# Altium schematic symbol library FPGA_Xilinx_Virtex6.SchLib: 28 symbols (part 1 of 15)
Pins are listed as number, name and electrical type; pins without a type are passive.

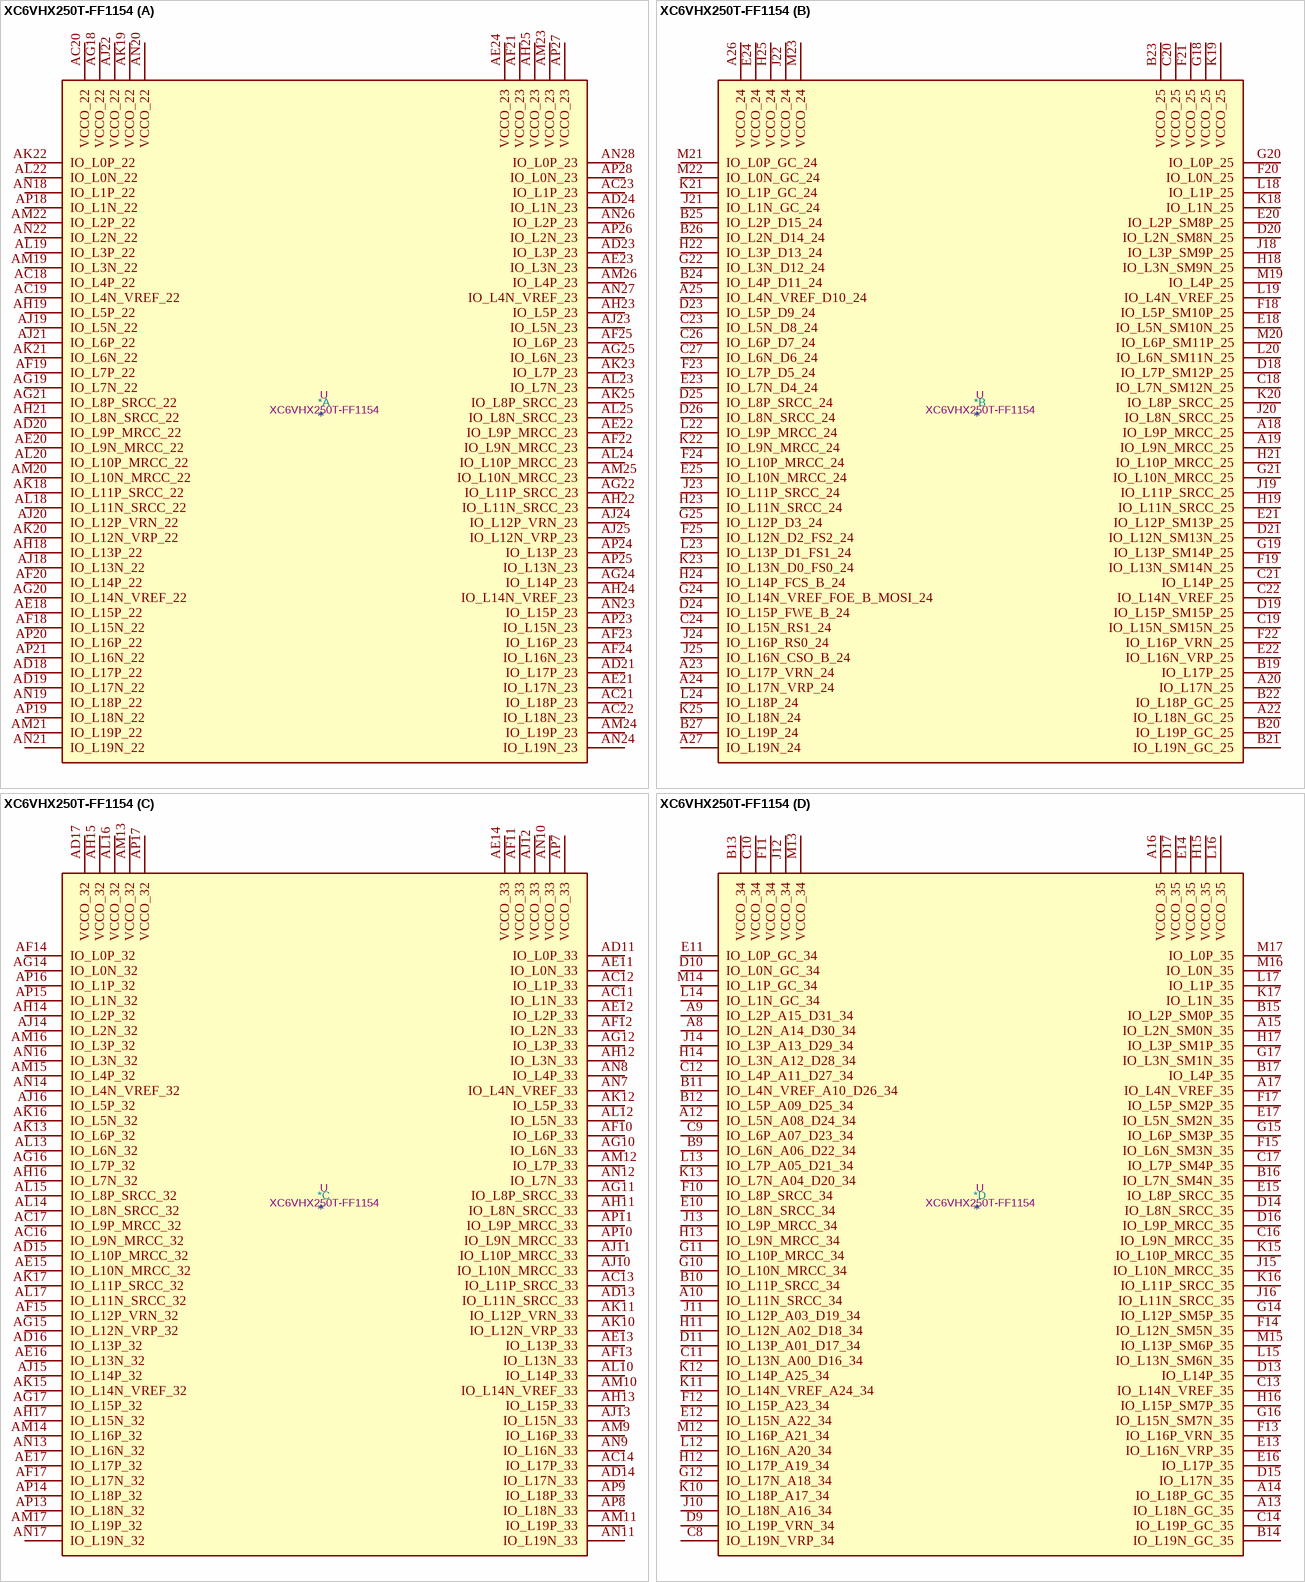
[diagram p0: symbol XC6VHX250T-FF1154]

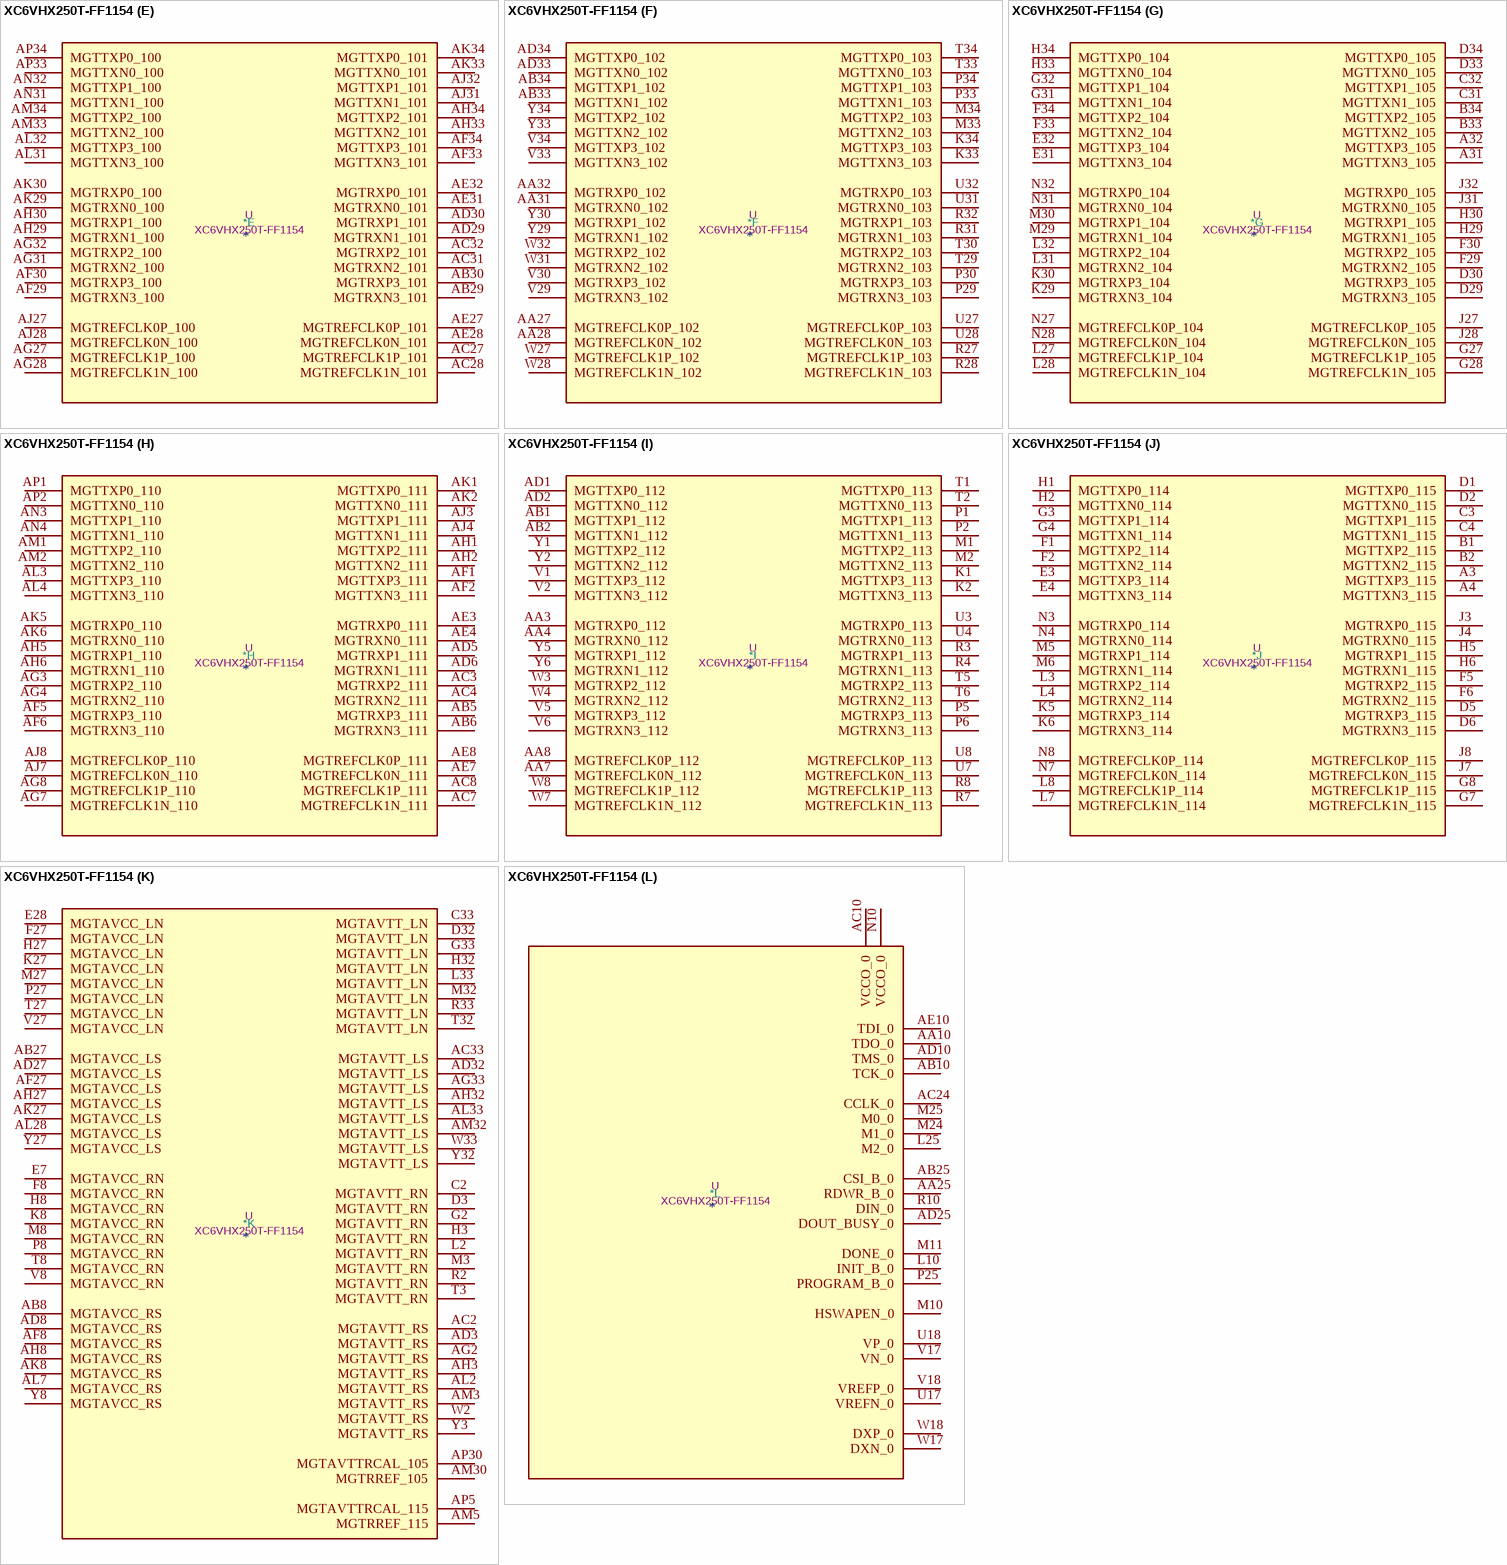
[diagram p1: symbol XC6VHX250T-FF1154]

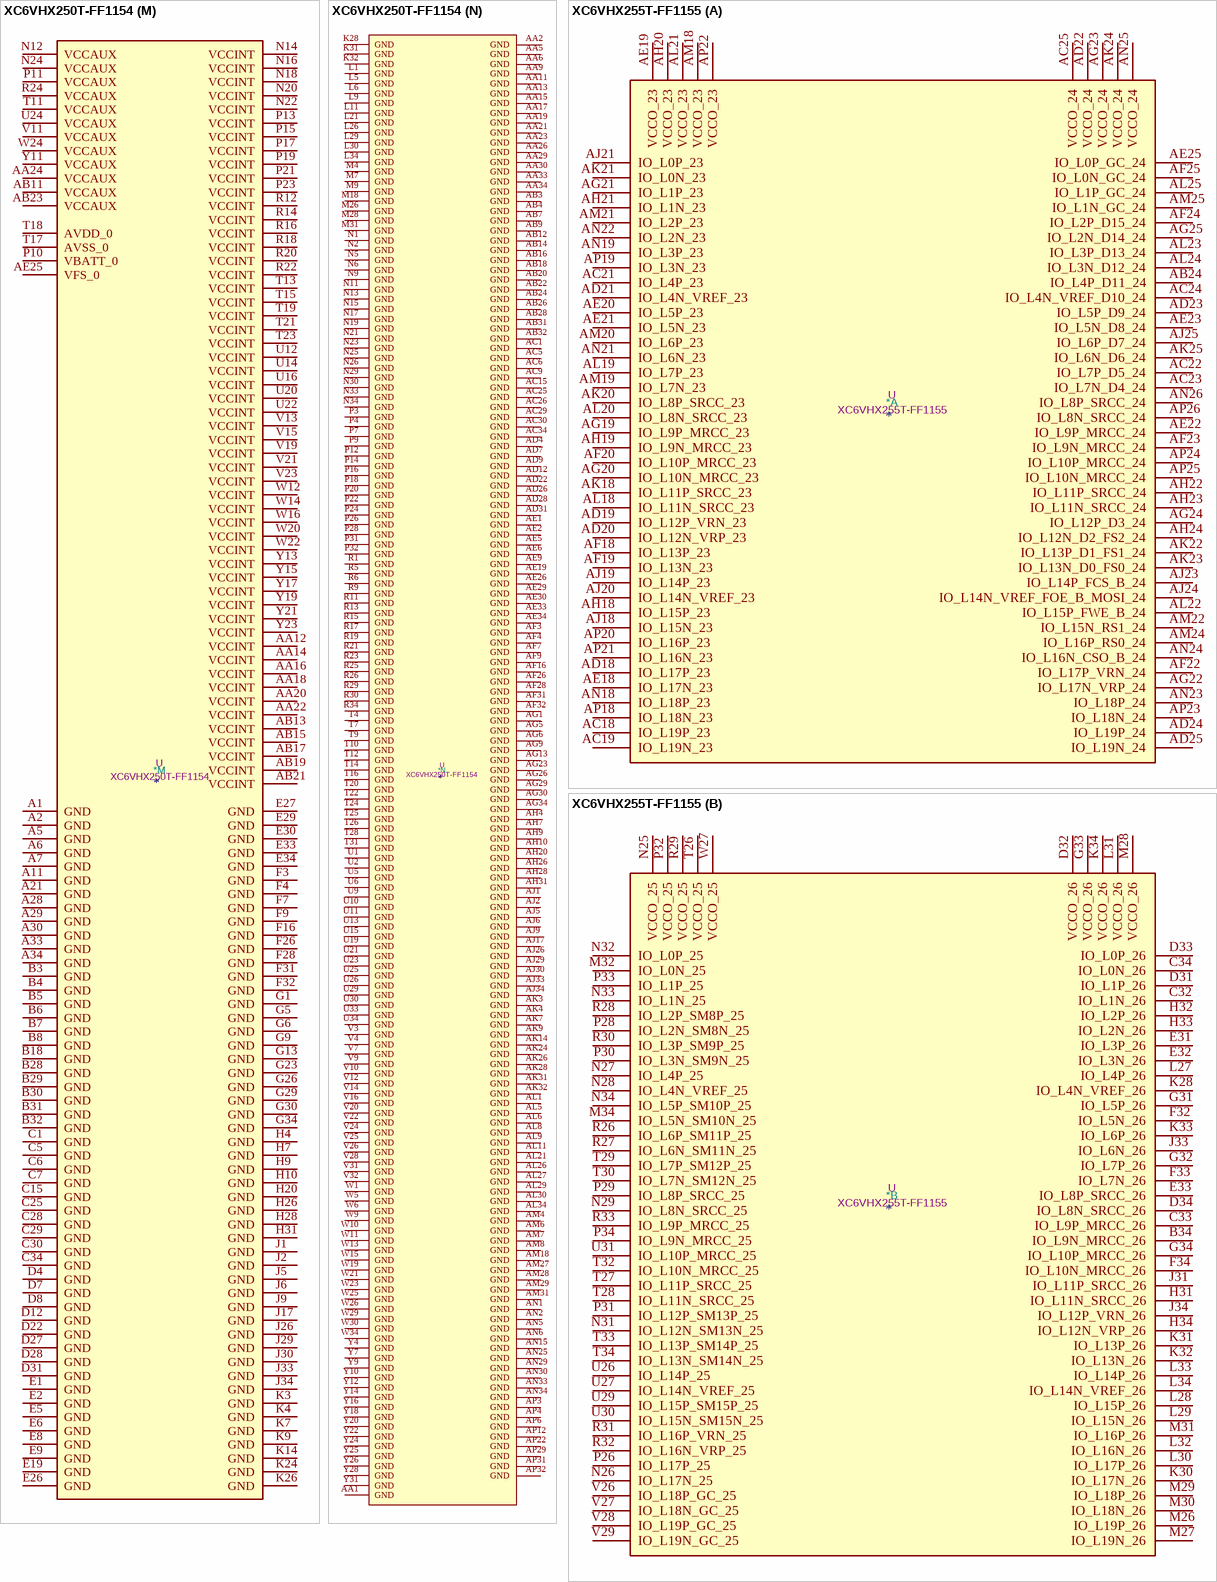
[diagram p2: symbols XC6VHX250T-FF1154 to XC6VHX255T-FF1155]

## XC6VHX250T-FF1154
designator *  value XC6VHX250T-FF1154  Reference: U
Virtex 6 HXT 250 XC6VHX250T-FF1154; ki_keywords: FPGA; Description_: Virtex 6 HXT 250 XC6VHX250T-FF1154
part A pins: AC18 IO_L4P_22, AC19 IO_L4N_VREF_22, AC20 VCCO_22, AC21 IO_L18P_23, AC22 IO_L18N_23, AC23 IO_L1P_23, AD18 IO_L17P_22, AD19 IO_L17N_22, AD20 IO_L9P_MRCC_22, AD21 IO_L17P_23, AD23 IO_L3P_23, AD24 IO_L1N_23, AE18 IO_L15P_22, AE20 IO_L9N_MRCC_22, AE21 IO_L17N_23, AE22 IO_L9P_MRCC_23, AE23 IO_L3N_23, AE24 VCCO_23, AF18 IO_L15N_22, AF19 IO_L7P_22, AF20 IO_L14P_22, AF21 VCCO_23, AF22 IO_L9N_MRCC_23, AF23 IO_L16P_23, AF24 IO_L16N_23, AF25 IO_L6P_23, AG18 VCCO_22, AG19 IO_L7N_22, AG20 IO_L14N_VREF_22, AG21 IO_L8P_SRCC_22, AG22 IO_L11P_SRCC_23, AG24 IO_L14P_23, AG25 IO_L6N_23, AH18 IO_L13P_22, AH19 IO_L5P_22, AH21 IO_L8N_SRCC_22, AH22 IO_L11N_SRCC_23, AH23 IO_L5P_23, AH24 IO_L14N_VREF_23, AH25 VCCO_23, AJ18 IO_L13N_22, AJ19 IO_L5N_22, AJ20 IO_L12P_VRN_22, AJ21 IO_L6P_22, AJ22 VCCO_22, AJ23 IO_L5N_23, AJ24 IO_L12P_VRN_23, AJ25 IO_L12N_VRP_23, AK18 IO_L11P_SRCC_22, AK19 VCCO_22, AK20 IO_L12N_VRP_22, AK21 IO_L6N_22, AK22 IO_L0P_22, AK23 IO_L7P_23, AK25 IO_L8P_SRCC_23, AL18 IO_L11N_SRCC_22, AL19 IO_L3P_22, AL20 IO_L10P_MRCC_22, AL22 IO_L0N_22, AL23 IO_L7N_23, AL24 IO_L10P_MRCC_23, AL25 IO_L8N_SRCC_23, AM19 IO_L3N_22, AM20 IO_L10N_MRCC_22, AM21 IO_L19P_22, AM22 IO_L2P_22, AM23 VCCO_23, AM24 IO_L19P_23, AM25 IO_L10N_MRCC_23, AM26 IO_L4P_23, AN18 IO_L1P_22, AN19 IO_L18P_22, AN20 VCCO_22, AN21 IO_L19N_22, AN22 IO_L2N_22, AN23 IO_L15P_23, AN24 IO_L19N_23, AN26 IO_L2P_23, AN27 IO_L4N_VREF_23, AN28 IO_L0P_23, AP18 IO_L1N_22, AP19 IO_L18N_22, AP20 IO_L16P_22, AP21 IO_L16N_22, AP23 IO_L15N_23, AP24 IO_L13P_23, AP25 IO_L13N_23, AP26 IO_L2N_23, AP27 VCCO_23, AP28 IO_L0N_23
part B pins: A18 IO_L9P_MRCC_25, A19 IO_L9N_MRCC_25, A20 IO_L17N_25, A22 IO_L18N_GC_25, A23 IO_L17P_VRN_24, A24 IO_L17N_VRP_24, A25 IO_L4N_VREF_D10_24, A26 VCCO_24, A27 IO_L19N_24, B19 IO_L17P_25, B20 IO_L19P_GC_25, B21 IO_L19N_GC_25, B22 IO_L18P_GC_25, B23 VCCO_25, B24 IO_L4P_D11_24, B25 IO_L2P_D15_24, B26 IO_L2N_D14_24, B27 IO_L19P_24, C18 IO_L7N_SM12N_25, C19 IO_L15N_SM15N_25, C20 VCCO_25, C21 IO_L14P_25, C22 IO_L14N_VREF_25, C23 IO_L5N_D8_24, C24 IO_L15N_RS1_24, C26 IO_L6P_D7_24, C27 IO_L6N_D6_24, D18 IO_L7P_SM12P_25, D19 IO_L15P_SM15P_25, D20 IO_L2N_SM8N_25, D21 IO_L12N_SM13N_25, D23 IO_L5P_D9_24, D24 IO_L15P_FWE_B_24, D25 IO_L8P_SRCC_24, D26 IO_L8N_SRCC_24, E18 IO_L5N_SM10N_25, E20 IO_L2P_SM8P_25, E21 IO_L12P_SM13P_25, E22 IO_L16N_VRP_25, E23 IO_L7N_D4_24, E24 VCCO_24, E25 IO_L10N_MRCC_24, F18 IO_L5P_SM10P_25, F19 IO_L13N_SM14N_25, F20 IO_L0N_25, F21 VCCO_25, F22 IO_L16P_VRN_25, F23 IO_L7P_D5_24, F24 IO_L10P_MRCC_24, F25 IO_L12N_D2_FS2_24, G18 VCCO_25, G19 IO_L13P_SM14P_25, G20 IO_L0P_25, G21 IO_L10N_MRCC_25, G22 IO_L3N_D12_24, G24 IO_L14N_VREF_FOE_B_MOSI_24, G25 IO_L12P_D3_24, H18 IO_L3N_SM9N_25, H19 IO_L11N_SRCC_25, H21 IO_L10P_MRCC_25, H22 IO_L3P_D13_24, H23 IO_L11N_SRCC_24, H24 IO_L14P_FCS_B_24, H25 VCCO_24, J18 IO_L3P_SM9P_25, J19 IO_L11P_SRCC_25, J20 IO_L8N_SRCC_25, J21 IO_L1N_GC_24, J22 VCCO_24, J23 IO_L11P_SRCC_24, J24 IO_L16P_RS0_24, J25 IO_L16N_CSO_B_24, K18 IO_L1N_25, K19 VCCO_25, K20 IO_L8P_SRCC_25, K21 IO_L1P_GC_24, K22 IO_L9N_MRCC_24, K23 IO_L13N_D0_FS0_24, K25 IO_L18N_24, L18 IO_L1P_25, L19 IO_L4N_VREF_25, L20 IO_L6N_SM11N_25, L22 IO_L9P_MRCC_24, L23 IO_L13P_D1_FS1_24, L24 IO_L18P_24, M19 IO_L4P_25, M20 IO_L6P_SM11P_25, M21 IO_L0P_GC_24, M22 IO_L0N_GC_24, M23 VCCO_24
part C pins: AC11 IO_L1N_33, AC12 IO_L1P_33, AC13 IO_L11P_SRCC_33, AC14 IO_L17P_33, AC16 IO_L9N_MRCC_32, AC17 IO_L9P_MRCC_32, AD11 IO_L0P_33, AD13 IO_L11N_SRCC_33, AD14 IO_L17N_33, AD15 IO_L10P_MRCC_32, AD16 IO_L13P_32, AD17 VCCO_32, AE11 IO_L0N_33, AE12 IO_L2P_33, AE13 IO_L13P_33, AE14 VCCO_33, AE15 IO_L10N_MRCC_32, AE16 IO_L13N_32, AE17 IO_L17P_32, AF10 IO_L6P_33, AF11 VCCO_33, AF12 IO_L2N_33, AF13 IO_L13N_33, AF14 IO_L0P_32, AF15 IO_L12P_VRN_32, AF17 IO_L17N_32, AG10 IO_L6N_33, AG11 IO_L8P_SRCC_33, AG12 IO_L3P_33, AG14 IO_L0N_32, AG15 IO_L12N_VRP_32, AG16 IO_L7P_32, AG17 IO_L15P_32, AH11 IO_L8N_SRCC_33, AH12 IO_L3N_33, AH13 IO_L15P_33, AH14 IO_L2P_32, AH15 VCCO_32, AH16 IO_L7N_32, AH17 IO_L15N_32, AJ10 IO_L10N_MRCC_33, AJ11 IO_L10P_MRCC_33, AJ12 VCCO_33, AJ13 IO_L15N_33, AJ14 IO_L2N_32, AJ15 IO_L14P_32, AJ16 IO_L5P_32, AK10 IO_L12N_VRP_33, AK11 IO_L12P_VRN_33, AK12 IO_L5P_33, AK13 IO_L6P_32, AK15 IO_L14N_VREF_32, AK16 IO_L5N_32, AK17 IO_L11P_SRCC_32, AL10 IO_L14P_33, AL12 IO_L5N_33, AL13 IO_L6N_32, AL14 IO_L8N_SRCC_32, AL15 IO_L8P_SRCC_32, AL16 VCCO_32, AL17 IO_L11N_SRCC_32, AM9 IO_L16P_33, AM10 IO_L14N_VREF_33, AM11 IO_L19P_33, AM12 IO_L7P_33, AM13 VCCO_32, AM14 IO_L16P_32, AM15 IO_L4P_32, AM16 IO_L3P_32, AM17 IO_L19P_32, AN7 IO_L4N_VREF_33, AN8 IO_L4P_33, AN9 IO_L16N_33, AN10 VCCO_33, AN11 IO_L19N_33, AN12 IO_L7N_33, AN13 IO_L16N_32, AN14 IO_L4N_VREF_32, AN16 IO_L3N_32, AN17 IO_L19N_32, AP7 VCCO_33, AP8 IO_L18N_33, AP9 IO_L18P_33, AP10 IO_L9N_MRCC_33, AP11 IO_L9P_MRCC_33, AP13 IO_L18N_32, AP14 IO_L18P_32, AP15 IO_L1N_32, AP16 IO_L1P_32, AP17 VCCO_32
part D pins: A8 IO_L2N_A14_D30_34, A9 IO_L2P_A15_D31_34, A10 IO_L11N_SRCC_34, A12 IO_L5N_A08_D24_34, A13 IO_L18N_GC_35, A14 IO_L18P_GC_35, A15 IO_L2N_SM0N_35, A16 VCCO_35, A17 IO_L4N_VREF_35, B9 IO_L6N_A06_D22_34, B10 IO_L11P_SRCC_34, B11 IO_L4N_VREF_A10_D26_34, B12 IO_L5P_A09_D25_34, B13 VCCO_34, B14 IO_L19N_GC_35, B15 IO_L2P_SM0P_35, B16 IO_L7N_SM4N_35, B17 IO_L4P_35, C8 IO_L19N_VRP_34, C9 IO_L6P_A07_D23_34, C10 VCCO_34, C11 IO_L13N_A00_D16_34, C12 IO_L4P_A11_D27_34, C13 IO_L14N_VREF_35, C14 IO_L19P_GC_35, C16 IO_L9N_MRCC_35, C17 IO_L7P_SM4P_35, D9 IO_L19P_VRN_34, D10 IO_L0N_GC_34, D11 IO_L13P_A01_D17_34, D13 IO_L14P_35, D14 IO_L8N_SRCC_35, D15 IO_L17N_35, D16 IO_L9P_MRCC_35, D17 VCCO_35, E10 IO_L8N_SRCC_34, E11 IO_L0P_GC_34, E12 IO_L15N_A22_34, E13 IO_L16N_VRP_35, E14 VCCO_35, E15 IO_L8P_SRCC_35, E16 IO_L17P_35, E17 IO_L5N_SM2N_35, F10 IO_L8P_SRCC_34, F11 VCCO_34, F12 IO_L15P_A23_34, F13 IO_L16P_VRN_35, F14 IO_L12N_SM5N_35, F15 IO_L6N_SM3N_35, F17 IO_L5P_SM2P_35, G10 IO_L10N_MRCC_34, G11 IO_L10P_MRCC_34, G12 IO_L17N_A18_34, G14 IO_L12P_SM5P_35, G15 IO_L6P_SM3P_35, G16 IO_L15N_SM7N_35, G17 IO_L3N_SM1N_35, H11 IO_L12N_A02_D18_34, H12 IO_L17P_A19_34, H13 IO_L9N_MRCC_34, H14 IO_L3N_A12_D28_34, H15 VCCO_35, H16 IO_L15P_SM7P_35, H17 IO_L3P_SM1P_35, J10 IO_L18N_A16_34, J11 IO_L12P_A03_D19_34, J12 VCCO_34, J13 IO_L9P_MRCC_34, J14 IO_L3P_A13_D29_34, J15 IO_L10N_MRCC_35, J16 IO_L11N_SRCC_35, K10 IO_L18P_A17_34, K11 IO_L14N_VREF_A24_34, K12 IO_L14P_A25_34, K13 IO_L7N_A04_D20_34, K15 IO_L10P_MRCC_35, K16 IO_L11P_SRCC_35, K17 IO_L1N_35, L12 IO_L16N_A20_34, L13 IO_L7P_A05_D21_34, L14 IO_L1N_GC_34, L15 IO_L13N_SM6N_35, L16 VCCO_35, L17 IO_L1P_35, M12 IO_L16P_A21_34, M13 VCCO_34, M14 IO_L1P_GC_34, M15 IO_L13P_SM6P_35, M16 IO_L0N_35, M17 IO_L0P_35
part E pins: AB29 MGTRXN3_101, AB30 MGTRXP3_101, AC27 MGTREFCLK1P_101, AC28 MGTREFCLK1N_101, AC31 MGTRXN2_101, AC32 MGTRXP2_101, AD29 MGTRXN1_101, AD30 MGTRXP1_101, AE27 MGTREFCLK0P_101, AE28 MGTREFCLK0N_101, AE31 MGTRXN0_101, AE32 MGTRXP0_101, AF29 MGTRXN3_100, AF30 MGTRXP3_100, AF33 MGTTXN3_101, AF34 MGTTXP3_101, AG27 MGTREFCLK1P_100, AG28 MGTREFCLK1N_100, AG31 MGTRXN2_100, AG32 MGTRXP2_100, AH29 MGTRXN1_100, AH30 MGTRXP1_100, AH33 MGTTXN2_101, AH34 MGTTXP2_101, AJ27 MGTREFCLK0P_100, AJ28 MGTREFCLK0N_100, AJ31 MGTTXN1_101, AJ32 MGTTXP1_101, AK29 MGTRXN0_100, AK30 MGTRXP0_100, AK33 MGTTXN0_101, AK34 MGTTXP0_101, AL31 MGTTXN3_100, AL32 MGTTXP3_100, AM33 MGTTXN2_100, AM34 MGTTXP2_100, AN31 MGTTXN1_100, AN32 MGTTXP1_100, AP33 MGTTXN0_100, AP34 MGTTXP0_100
part F pins: AA27 MGTREFCLK0P_102, AA28 MGTREFCLK0N_102, AA31 MGTRXN0_102, AA32 MGTRXP0_102, AB33 MGTTXN1_102, AB34 MGTTXP1_102, AD33 MGTTXN0_102, AD34 MGTTXP0_102, K33 MGTTXN3_103, K34 MGTTXP3_103, M33 MGTTXN2_103, M34 MGTTXP2_103, P29 MGTRXN3_103, P30 MGTRXP3_103, P33 MGTTXN1_103, P34 MGTTXP1_103, R27 MGTREFCLK1P_103, R28 MGTREFCLK1N_103, R31 MGTRXN1_103, R32 MGTRXP1_103, T29 MGTRXN2_103, T30 MGTRXP2_103, T33 MGTTXN0_103, T34 MGTTXP0_103, U27 MGTREFCLK0P_103, U28 MGTREFCLK0N_103, U31 MGTRXN0_103, U32 MGTRXP0_103, V29 MGTRXN3_102, V30 MGTRXP3_102, V33 MGTTXN3_102, V34 MGTTXP3_102, W27 MGTREFCLK1P_102, W28 MGTREFCLK1N_102, W31 MGTRXN2_102, W32 MGTRXP2_102, Y29 MGTRXN1_102, Y30 MGTRXP1_102, Y33 MGTTXN2_102, Y34 MGTTXP2_102
part G pins: A31 MGTTXN3_105, A32 MGTTXP3_105, B33 MGTTXN2_105, B34 MGTTXP2_105, C31 MGTTXN1_105, C32 MGTTXP1_105, D29 MGTRXN3_105, D30 MGTRXP3_105, D33 MGTTXN0_105, D34 MGTTXP0_105, E31 MGTTXN3_104, E32 MGTTXP3_104, F29 MGTRXN2_105, F30 MGTRXP2_105, F33 MGTTXN2_104, F34 MGTTXP2_104, G27 MGTREFCLK1P_105, G28 MGTREFCLK1N_105, G31 MGTTXN1_104, G32 MGTTXP1_104, H29 MGTRXN1_105, H30 MGTRXP1_105, H33 MGTTXN0_104, H34 MGTTXP0_104, J27 MGTREFCLK0P_105, J28 MGTREFCLK0N_105, J31 MGTRXN0_105, J32 MGTRXP0_105, K29 MGTRXN3_104, K30 MGTRXP3_104, L27 MGTREFCLK1P_104, L28 MGTREFCLK1N_104, L31 MGTRXN2_104, L32 MGTRXP2_104, M29 MGTRXN1_104, M30 MGTRXP1_104, N27 MGTREFCLK0P_104, N28 MGTREFCLK0N_104, N31 MGTRXN0_104, N32 MGTRXP0_104
part H pins: AB5 MGTRXP3_111, AB6 MGTRXN3_111, AC3 MGTRXP2_111, AC4 MGTRXN2_111, AC7 MGTREFCLK1N_111, AC8 MGTREFCLK1P_111, AD5 MGTRXP1_111, AD6 MGTRXN1_111, AE3 MGTRXP0_111, AE4 MGTRXN0_111, AE7 MGTREFCLK0N_111, AE8 MGTREFCLK0P_111, AF1 MGTTXP3_111, AF2 MGTTXN3_111, AF5 MGTRXP3_110, AF6 MGTRXN3_110, AG3 MGTRXP2_110, AG4 MGTRXN2_110, AG7 MGTREFCLK1N_110, AG8 MGTREFCLK1P_110, AH1 MGTTXP2_111, AH2 MGTTXN2_111, AH5 MGTRXP1_110, AH6 MGTRXN1_110, AJ3 MGTTXP1_111, AJ4 MGTTXN1_111, AJ7 MGTREFCLK0N_110, AJ8 MGTREFCLK0P_110, AK1 MGTTXP0_111, AK2 MGTTXN0_111, AK5 MGTRXP0_110, AK6 MGTRXN0_110, AL3 MGTTXP3_110, AL4 MGTTXN3_110, AM1 MGTTXP2_110, AM2 MGTTXN2_110, AN3 MGTTXP1_110, AN4 MGTTXN1_110, AP1 MGTTXP0_110, AP2 MGTTXN0_110
part I pins: AA3 MGTRXP0_112, AA4 MGTRXN0_112, AA7 MGTREFCLK0N_112, AA8 MGTREFCLK0P_112, AB1 MGTTXP1_112, AB2 MGTTXN1_112, AD1 MGTTXP0_112, AD2 MGTTXN0_112, K1 MGTTXP3_113, K2 MGTTXN3_113, M1 MGTTXP2_113, M2 MGTTXN2_113, P1 MGTTXP1_113, P2 MGTTXN1_113, P5 MGTRXP3_113, P6 MGTRXN3_113, R3 MGTRXP1_113, R4 MGTRXN1_113, R7 MGTREFCLK1N_113, R8 MGTREFCLK1P_113, T1 MGTTXP0_113, T2 MGTTXN0_113, T5 MGTRXP2_113, T6 MGTRXN2_113, U3 MGTRXP0_113, U4 MGTRXN0_113, U7 MGTREFCLK0N_113, U8 MGTREFCLK0P_113, V1 MGTTXP3_112, V2 MGTTXN3_112, V5 MGTRXP3_112, V6 MGTRXN3_112, W3 MGTRXP2_112, W4 MGTRXN2_112, W7 MGTREFCLK1N_112, W8 MGTREFCLK1P_112, Y1 MGTTXP2_112, Y2 MGTTXN2_112, Y5 MGTRXP1_112, Y6 MGTRXN1_112
part J pins: A3 MGTTXP3_115, A4 MGTTXN3_115, B1 MGTTXP2_115, B2 MGTTXN2_115, C3 MGTTXP1_115, C4 MGTTXN1_115, D1 MGTTXP0_115, D2 MGTTXN0_115, D5 MGTRXP3_115, D6 MGTRXN3_115, E3 MGTTXP3_114, E4 MGTTXN3_114, F1 MGTTXP2_114, F2 MGTTXN2_114, F5 MGTRXP2_115, F6 MGTRXN2_115, G3 MGTTXP1_114, G4 MGTTXN1_114, G7 MGTREFCLK1N_115, G8 MGTREFCLK1P_115, H1 MGTTXP0_114, H2 MGTTXN0_114, H5 MGTRXP1_115, H6 MGTRXN1_115, J3 MGTRXP0_115, J4 MGTRXN0_115, J7 MGTREFCLK0N_115, J8 MGTREFCLK0P_115, K5 MGTRXP3_114, K6 MGTRXN3_114, L3 MGTRXP2_114, L4 MGTRXN2_114, L7 MGTREFCLK1N_114, L8 MGTREFCLK1P_114, M5 MGTRXP1_114, M6 MGTRXN1_114, N3 MGTRXP0_114, N4 MGTRXN0_114, N7 MGTREFCLK0N_114, N8 MGTREFCLK0P_114
part K pins: AB8 MGTAVCC_RS, AB27 MGTAVCC_LS, AC2 MGTAVTT_RS, AC33 MGTAVTT_LS, AD3 MGTAVTT_RS, AD8 MGTAVCC_RS, AD27 MGTAVCC_LS, AD32 MGTAVTT_LS, AF8 MGTAVCC_RS, AF27 MGTAVCC_LS, AG2 MGTAVTT_RS, AG33 MGTAVTT_LS, AH3 MGTAVTT_RS, AH8 MGTAVCC_RS, AH27 MGTAVCC_LS, AH32 MGTAVTT_LS, AK8 MGTAVCC_RS, AK27 MGTAVCC_LS, AL2 MGTAVTT_RS, AL7 MGTAVCC_RS, AL28 MGTAVCC_LS, AL33 MGTAVTT_LS, AM3 MGTAVTT_RS, AM5 MGTRREF_115, AM30 MGTRREF_105, AM32 MGTAVTT_LS, AP5 MGTAVTTRCAL_115, AP30 MGTAVTTRCAL_105, C2 MGTAVTT_RN, C33 MGTAVTT_LN, D3 MGTAVTT_RN, D32 MGTAVTT_LN, E7 MGTAVCC_RN, E28 MGTAVCC_LN, F8 MGTAVCC_RN, F27 MGTAVCC_LN, G2 MGTAVTT_RN, G33 MGTAVTT_LN, H3 MGTAVTT_RN, H8 MGTAVCC_RN, H27 MGTAVCC_LN, H32 MGTAVTT_LN, K8 MGTAVCC_RN, K27 MGTAVCC_LN, L2 MGTAVTT_RN, L33 MGTAVTT_LN, M3 MGTAVTT_RN, M8 MGTAVCC_RN, M27 MGTAVCC_LN, M32 MGTAVTT_LN, P8 MGTAVCC_RN, P27 MGTAVCC_LN, R2 MGTAVTT_RN, R33 MGTAVTT_LN, T3 MGTAVTT_RN, T8 MGTAVCC_RN, T27 MGTAVCC_LN, T32 MGTAVTT_LN, V8 MGTAVCC_RN, V27 MGTAVCC_LN, W2 MGTAVTT_RS, W33 MGTAVTT_LS, Y3 MGTAVTT_RS, Y8 MGTAVCC_RS, Y27 MGTAVCC_LS, Y32 MGTAVTT_LS
part L pins: AA10 TDO_0, AA25 RDWR_B_0, AB10 TCK_0, AB25 CSI_B_0, AC10 VCCO_0, AC24 CCLK_0, AD10 TMS_0, AD25 DOUT_BUSY_0, AE10 TDI_0, L10 INIT_B_0, L25 M2_0, M10 HSWAPEN_0, M11 DONE_0, M24 M1_0, M25 M0_0, N10 VCCO_0, P25 PROGRAM_B_0, R10 DIN_0, U17 VREFN_0, U18 VP_0, V17 VN_0, V18 VREFP_0, W17 DXN_0, W18 DXP_0
part M pins: A1 GND, A2 GND, A5 GND, A6 GND, A7 GND, A11 GND, A21 GND, A28 GND, A29 GND, A30 GND, A33 GND, A34 GND, AA12 VCCINT, AA14 VCCINT, AA16 VCCINT, AA18 VCCINT, AA20 VCCINT, AA22 VCCINT, AA24 VCCAUX, AB11 VCCAUX, AB13 VCCINT, AB15 VCCINT, AB17 VCCINT, AB19 VCCINT, AB21 VCCINT, AB23 VCCAUX, AE25 VFS_0, B3 GND, B4 GND, B5 GND, B6 GND, B7 GND, B8 GND, B18 GND, B28 GND, B29 GND, B30 GND, B31 GND, B32 GND, C1 GND, C5 GND, C6 GND, C7 GND, C15 GND, C25 GND, C28 GND, C29 GND, C30 GND, C34 GND, D4 GND, D7 GND, D8 GND, D12 GND, D22 GND, D27 GND, D28 GND, D31 GND, E1 GND, E2 GND, E5 GND, E6 GND, E8 GND, E9 GND, E19 GND, E26 GND, E27 GND, E29 GND, E30 GND, E33 GND, E34 GND, F3 GND, F4 GND, F7 GND, F9 GND, F16 GND, F26 GND, F28 GND, F31 GND, F32 GND, G1 GND, G5 GND, G6 GND, G9 GND, G13 GND, G23 GND, G26 GND, G29 GND, G30 GND, G34 GND, H4 GND, H7 GND, H9 GND, H10 GND, H20 GND, H26 GND, H28 GND, H31 GND, J1 GND, J2 GND, J5 GND, J6 GND, J9 GND, J17 GND, J26 GND, J29 GND, J30 GND, J33 GND, J34 GND, K3 GND, K4 GND, K7 GND, K9 GND, K14 GND, K24 GND, K26 GND, N12 VCCAUX, N14 VCCINT, N16 VCCINT, N18 VCCINT, N20 VCCINT, N22 VCCINT, N24 VCCAUX, P10 VBATT_0, P11 VCCAUX, P13 VCCINT, P15 VCCINT, P17 VCCINT, P19 VCCINT, P21 VCCINT, P23 VCCINT, R12 VCCINT, R14 VCCINT, R16 VCCINT, R18 VCCINT, R20 VCCINT, R22 VCCINT, R24 VCCAUX, T11 VCCAUX, T13 VCCINT, T15 VCCINT, T17 AVSS_0, T18 AVDD_0, T19 VCCINT, T21 VCCINT, T23 VCCINT, U12 VCCINT, U14 VCCINT, U16 VCCINT, U20 VCCINT, U22 VCCINT, U24 VCCAUX, V11 VCCAUX, V13 VCCINT, V15 VCCINT, V19 VCCINT, V21 VCCINT, V23 VCCINT, W12 VCCINT, W14 VCCINT, W16 VCCINT, W20 VCCINT, W22 VCCINT, W24 VCCAUX, Y11 VCCAUX, Y13 VCCINT, Y15 VCCINT, Y17 VCCINT, Y19 VCCINT, Y21 VCCINT, Y23 VCCINT
part N pins: AA1 GND, AA2 GND, AA5 GND, AA6 GND, AA9 GND, AA11 GND, AA13 GND, AA15 GND, AA17 GND, AA19 GND, AA21 GND, AA23 GND, AA26 GND, AA29 GND, AA30 GND, AA33 GND, AA34 GND, AB3 GND, AB4 GND, AB7 GND, AB9 GND, AB12 GND, AB14 GND, AB16 GND, AB18 GND, AB20 GND, AB22 GND, AB24 GND, AB26 GND, AB28 GND, AB31 GND, AB32 GND, AC1 GND, AC5 GND, AC6 GND, AC9 GND, AC15 GND, AC25 GND, AC26 GND, AC29 GND, AC30 GND, AC34 GND, AD4 GND, AD7 GND, AD9 GND, AD12 GND, AD22 GND, AD26 GND, AD28 GND, AD31 GND, AE1 GND, AE2 GND, AE5 GND, AE6 GND, AE9 GND, AE19 GND, AE26 GND, AE29 GND, AE30 GND, AE33 GND, AE34 GND, AF3 GND, AF4 GND, AF7 GND, AF9 GND, AF16 GND, AF26 GND, AF28 GND, AF31 GND, AF32 GND, AG1 GND, AG5 GND, AG6 GND, AG9 GND, AG13 GND, AG23 GND, AG26 GND, AG29 GND, AG30 GND, AG34 GND, AH4 GND, AH7 GND, AH9 GND, AH10 GND, AH20 GND, AH26 GND, AH28 GND, AH31 GND, AJ1 GND, AJ2 GND, AJ5 GND, AJ6 GND, AJ9 GND, AJ17 GND, AJ26 GND, AJ29 GND, AJ30 GND, AJ33 GND, AJ34 GND, AK3 GND, AK4 GND, AK7 GND, AK9 GND, AK14 GND, AK24 GND, AK26 GND, AK28 GND, AK31 GND, AK32 GND, AL1 GND, AL5 GND, AL6 GND, AL8 GND, AL9 GND, AL11 GND, AL21 GND, AL26 GND, AL27 GND, AL29 GND, AL30 GND, AL34 GND, AM4 GND, AM6 GND, AM7 GND, AM8 GND, AM18 GND, AM27 GND, AM28 GND, AM29 GND, AM31 GND, AN1 GND, AN2 GND, AN5 GND, AN6 GND, AN15 GND, AN25 GND, AN29 GND, AN30 GND, AN33 GND, AN34 GND, AP3 GND, AP4 GND, AP6 GND, AP12 GND, AP22 GND, AP29 GND, AP31 GND, AP32 GND, K28 GND, K31 GND, K32 GND, L1 GND, L5 GND, L6 GND, L9 GND, L11 GND, L21 GND, L26 GND, L29 GND, L30 GND, L34 GND, M4 GND, M7 GND, M9 GND, M18 GND, M26 GND, M28 GND, M31 GND, N1 GND, N2 GND, N5 GND, N6 GND, N9 GND, N11 GND, N13 GND, N15 GND, N17 GND, N19 GND, N21 GND, N23 GND, N25 GND, N26 GND, N29 GND, N30 GND, N33 GND, N34 GND, P3 GND, P4 GND, P7 GND, P9 GND, P12 GND, P14 GND, P16 GND, P18 GND, P20 GND, P22 GND, P24 GND, P26 GND, P28 GND, P31 GND, P32 GND, R1 GND, R5 GND, R6 GND, R9 GND, R11 GND, R13 GND, R15 GND, R17 GND, R19 GND, R21 GND, R23 GND, R25 GND, R26 GND, R29 GND, R30 GND, R34 GND, T4 GND, T7 GND, T9 GND, T10 GND, T12 GND, T14 GND, T16 GND, T20 GND, T22 GND, T24 GND, T25 GND, T26 GND, T28 GND, T31 GND, U1 GND, U2 GND, U5 GND, U6 GND, U9 GND, U10 GND, U11 GND, U13 GND, U15 GND, U19 GND, U21 GND, U23 GND, U25 GND, U26 GND, U29 GND, U30 GND, U33 GND, U34 GND, V3 GND, V4 GND, V7 GND, V9 GND, V10 GND, V12 GND, V14 GND, V16 GND, V20 GND, V22 GND, V24 GND, V25 GND, V26 GND, V28 GND, V31 GND, V32 GND, W1 GND, W5 GND, W6 GND, W9 GND, W10 GND, W11 GND, W13 GND, W15 GND, W19 GND, W21 GND, W23 GND, W25 GND, W26 GND, W29 GND, W30 GND, W34 GND, Y4 GND, Y7 GND, Y9 GND, Y10 GND, Y12 GND, Y14 GND, Y16 GND, Y18 GND, Y20 GND, Y22 GND, Y24 GND, Y25 GND, Y26 GND, Y28 GND, Y31 GND

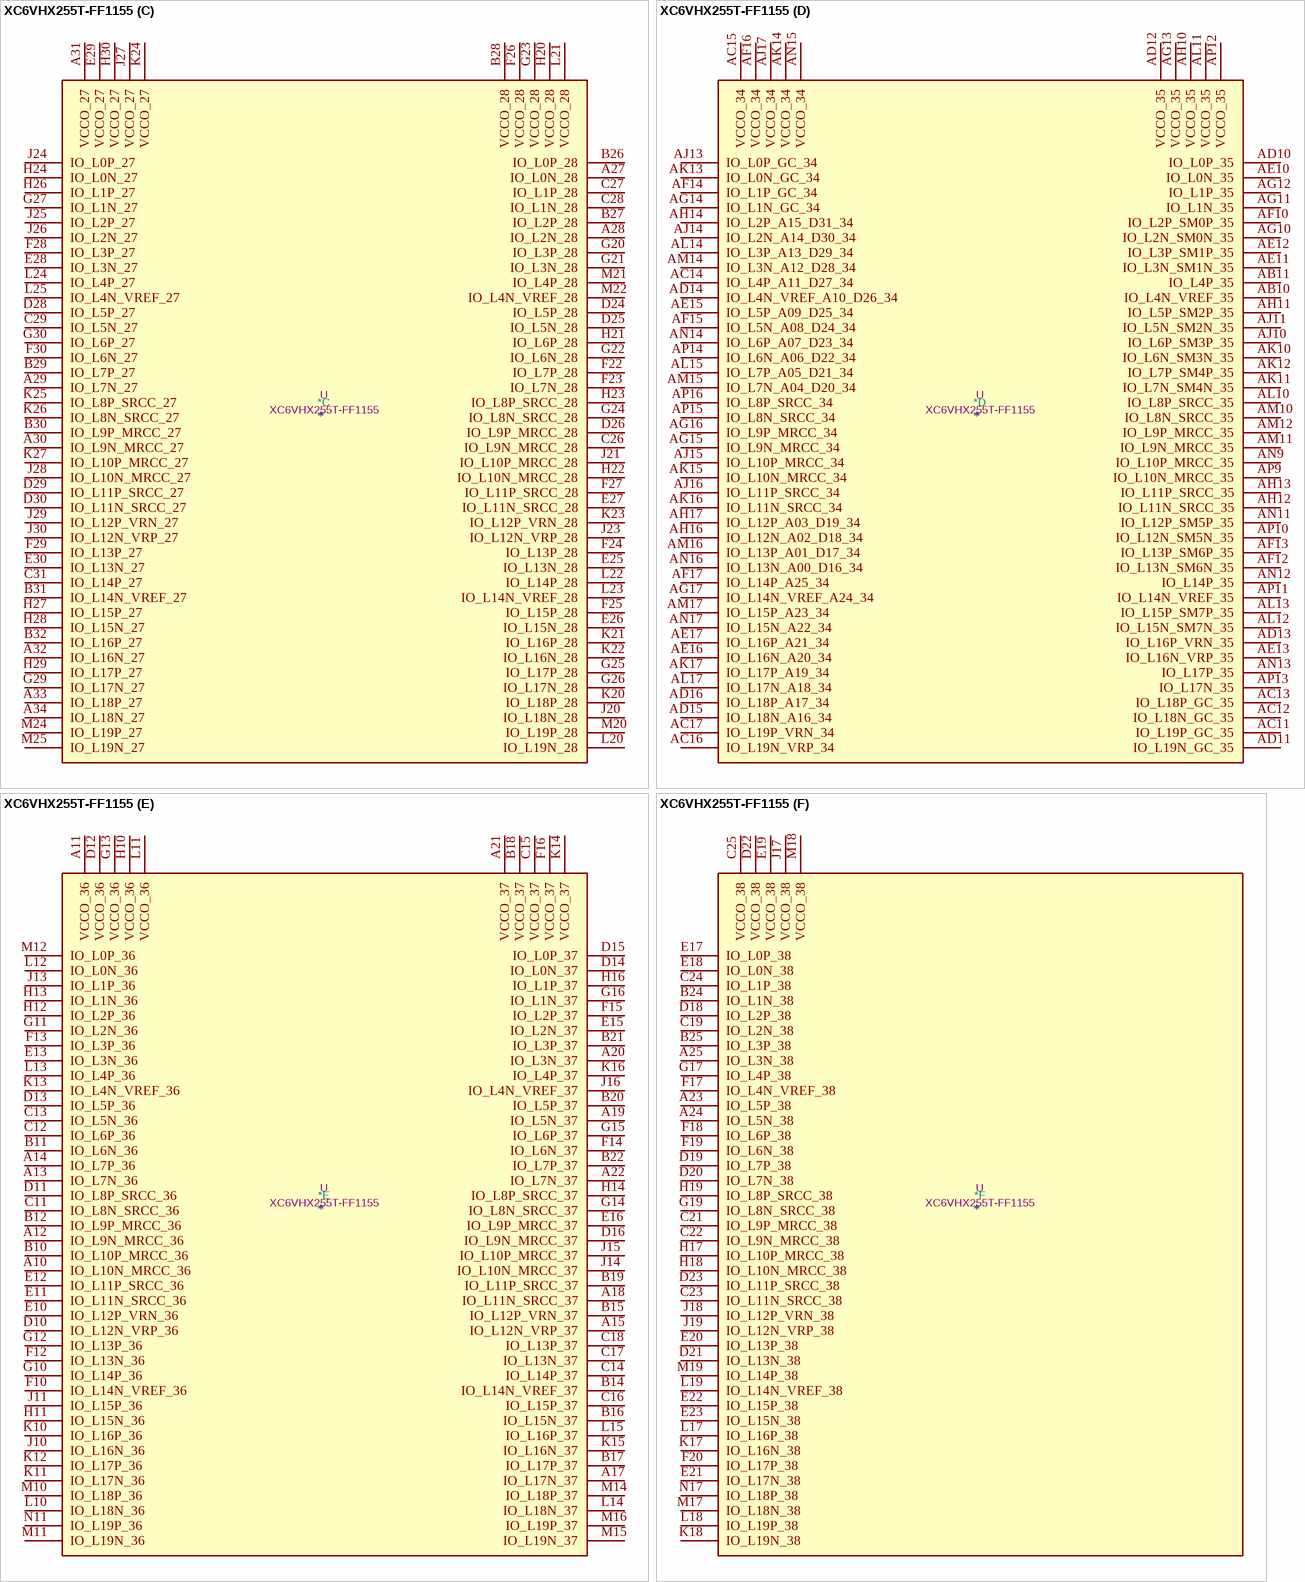
[diagram p3: symbol XC6VHX255T-FF1155]

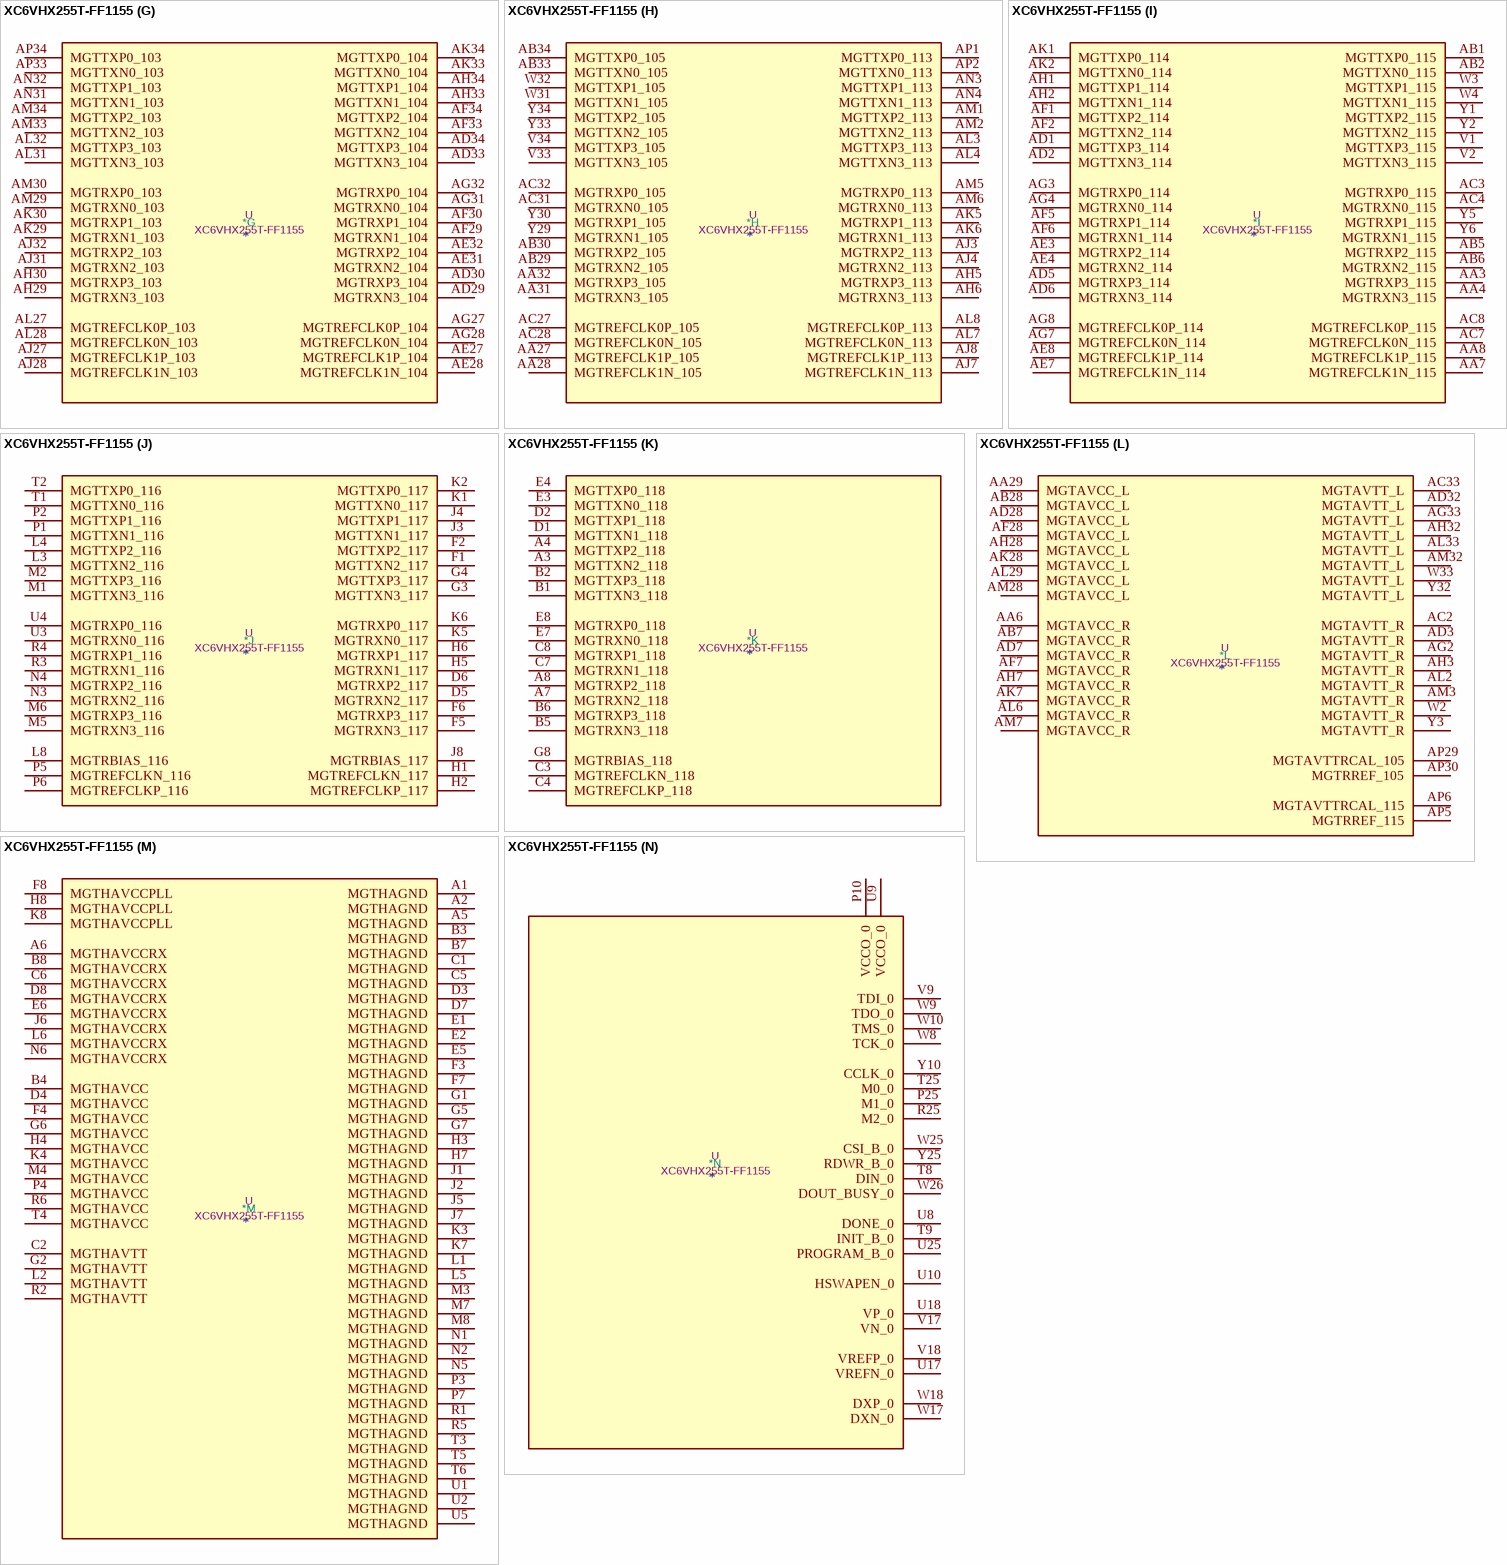
[diagram p4: symbol XC6VHX255T-FF1155]

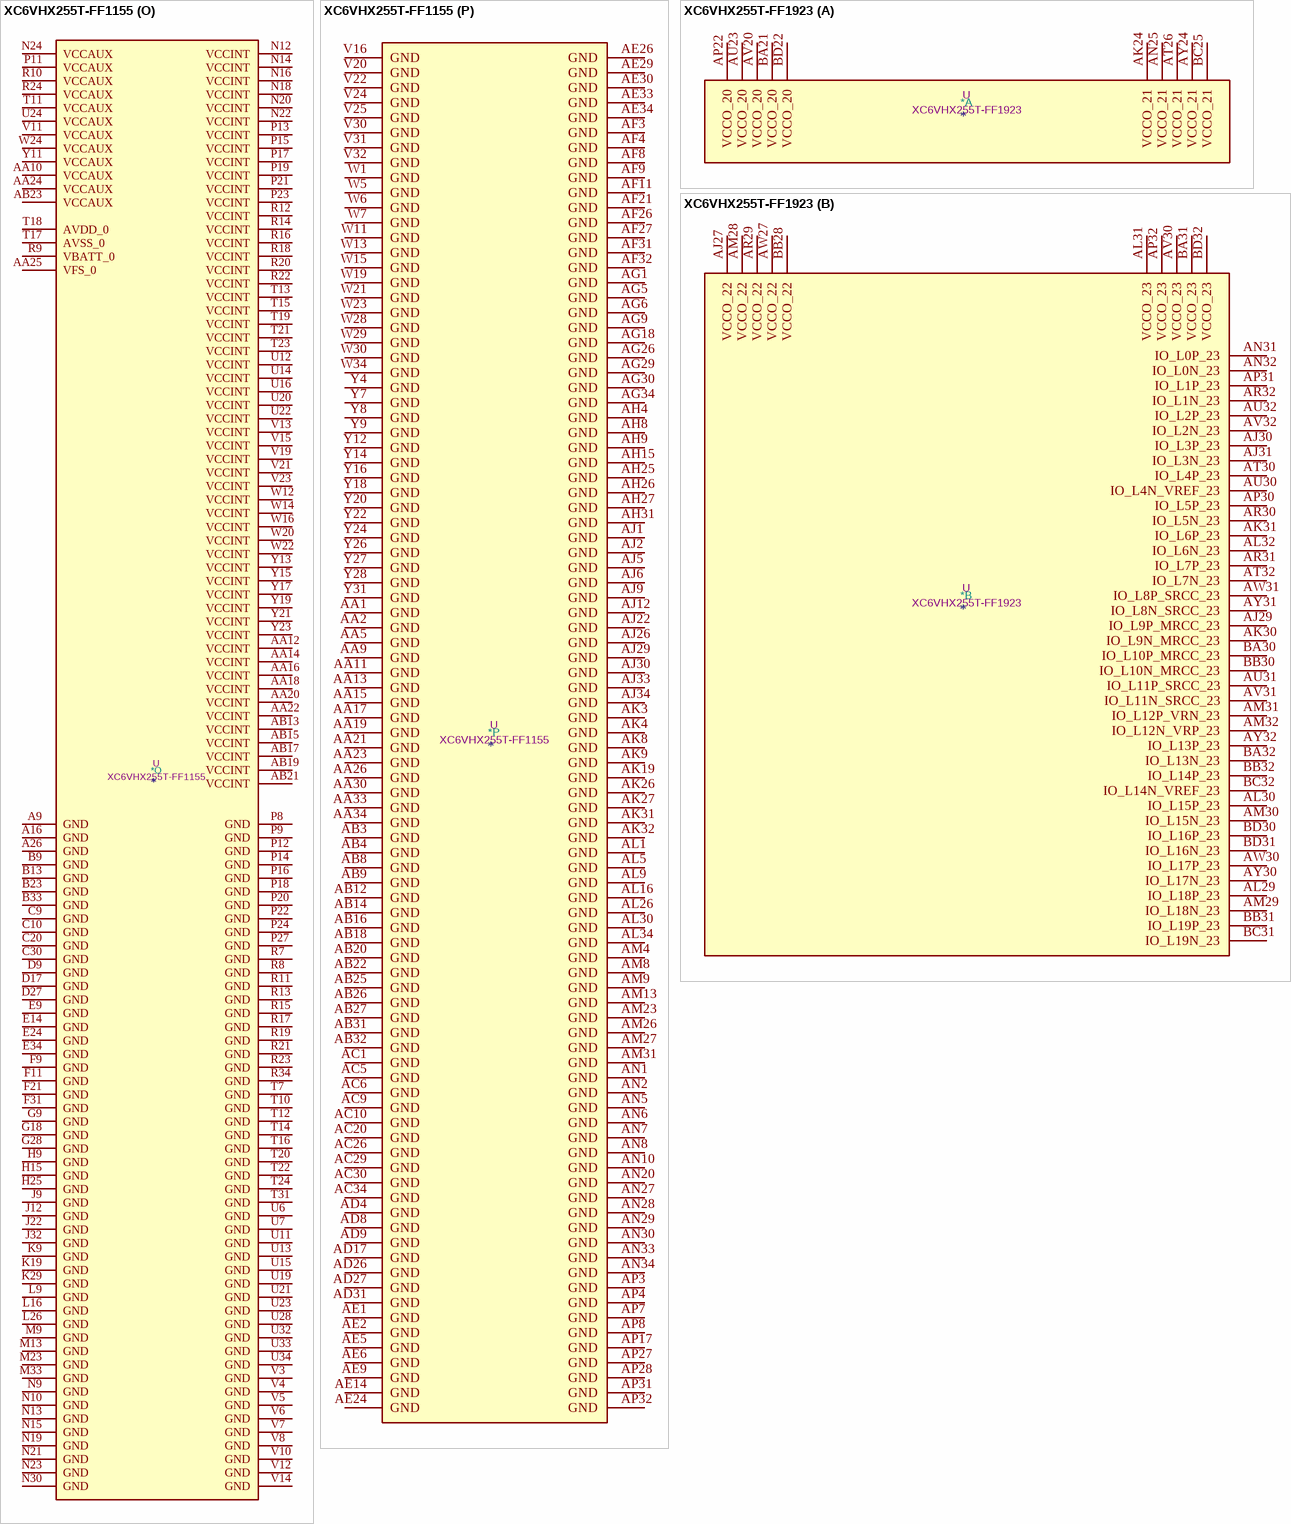
[diagram p5: symbols XC6VHX255T-FF1155 to XC6VHX255T-FF1923]

## XC6VHX255T-FF1155
designator *  value XC6VHX255T-FF1155  Reference: U
Virtex 6 HXT 255 XC6VHX255T-FF1155; ki_keywords: FPGA; Description_: Virtex 6 HXT 255 XC6VHX255T-FF1155
part A pins: AB24 IO_L4P_D11_24, AC18 IO_L19P_23, AC19 IO_L19N_23, AC21 IO_L4P_23, AC22 IO_L7P_D5_24, AC23 IO_L7N_D4_24, AC24 IO_L4N_VREF_D10_24, AC25 VCCO_24, AD18 IO_L17P_23, AD19 IO_L12P_VRN_23, AD20 IO_L12N_VRP_23, AD21 IO_L4N_VREF_23, AD22 VCCO_24, AD23 IO_L5P_D9_24, AD24 IO_L19P_24, AD25 IO_L19N_24, AE18 IO_L17N_23, AE19 VCCO_23, AE20 IO_L5P_23, AE21 IO_L5N_23, AE22 IO_L9P_MRCC_24, AE23 IO_L5N_D8_24, AE25 IO_L0P_GC_24, AF18 IO_L13P_23, AF19 IO_L13N_23, AF20 IO_L10P_MRCC_23, AF22 IO_L17P_VRN_24, AF23 IO_L9N_MRCC_24, AF24 IO_L2P_D15_24, AF25 IO_L0N_GC_24, AG19 IO_L9P_MRCC_23, AG20 IO_L10N_MRCC_23, AG21 IO_L1P_23, AG22 IO_L17N_VRP_24, AG23 VCCO_24, AG24 IO_L12P_D3_24, AG25 IO_L2N_D14_24, AH18 IO_L15P_23, AH19 IO_L9N_MRCC_23, AH20 VCCO_23, AH21 IO_L1N_23, AH22 IO_L11P_SRCC_24, AH23 IO_L11N_SRCC_24, AH24 IO_L12N_D2_FS2_24, AJ18 IO_L15N_23, AJ19 IO_L14P_23, AJ20 IO_L14N_VREF_23, AJ21 IO_L0P_23, AJ23 IO_L14P_FCS_B_24, AJ24 IO_L14N_VREF_FOE_B_MOSI_24, AJ25 IO_L6P_D7_24, AK18 IO_L11P_SRCC_23, AK20 IO_L8P_SRCC_23, AK21 IO_L0N_23, AK22 IO_L13P_D1_FS1_24, AK23 IO_L13N_D0_FS0_24, AK24 VCCO_24, AK25 IO_L6N_D6_24, AL18 IO_L11N_SRCC_23, AL19 IO_L7P_23, AL20 IO_L8N_SRCC_23, AL21 VCCO_23, AL22 IO_L15P_FWE_B_24, AL23 IO_L3P_D13_24, AL24 IO_L3N_D12_24, AL25 IO_L1P_GC_24, AM18 VCCO_23, AM19 IO_L7N_23, AM20 IO_L6P_23, AM21 IO_L2P_23, AM22 IO_L15N_RS1_24, AM24 IO_L16P_RS0_24, AM25 IO_L1N_GC_24, AN18 IO_L18P_23, AN19 IO_L3P_23, AN21 IO_L6N_23, AN22 IO_L2N_23, AN23 IO_L18P_24, AN24 IO_L16N_CSO_B_24, AN25 VCCO_24, AN26 IO_L8P_SRCC_24, AP18 IO_L18N_23, AP19 IO_L3N_23, AP20 IO_L16P_23, AP21 IO_L16N_23, AP22 VCCO_23, AP23 IO_L18N_24, AP24 IO_L10P_MRCC_24, AP25 IO_L10N_MRCC_24, AP26 IO_L8N_SRCC_24
part B pins: B34 IO_L9N_MRCC_26, C32 IO_L1N_26, C33 IO_L9P_MRCC_26, C34 IO_L0N_26, D31 IO_L1P_26, D32 VCCO_26, D33 IO_L0P_26, D34 IO_L8N_SRCC_26, E31 IO_L3P_26, E32 IO_L3N_26, E33 IO_L8P_SRCC_26, F32 IO_L5N_26, F33 IO_L7N_26, F34 IO_L10N_MRCC_26, G31 IO_L5P_26, G32 IO_L7P_26, G33 VCCO_26, G34 IO_L10P_MRCC_26, H31 IO_L11N_SRCC_26, H32 IO_L2P_26, H33 IO_L2N_26, H34 IO_L12N_VRP_26, J31 IO_L11P_SRCC_26, J33 IO_L6N_26, J34 IO_L12P_VRN_26, K28 IO_L4N_VREF_26, K30 IO_L17N_26, K31 IO_L13P_26, K32 IO_L13N_26, K33 IO_L6P_26, K34 VCCO_26, L27 IO_L4P_26, L28 IO_L15P_26, L29 IO_L15N_26, L30 IO_L17P_26, L31 VCCO_26, L32 IO_L16N_26, L33 IO_L14P_26, L34 IO_L14N_VREF_26, M26 IO_L19P_26, M27 IO_L19N_26, M28 VCCO_26, M29 IO_L18P_26, M30 IO_L18N_26, M31 IO_L16P_26, M32 IO_L0N_25, M34 IO_L5N_SM10N_25, N25 VCCO_25, N26 IO_L17N_25, N27 IO_L4P_25, N28 IO_L4N_VREF_25, N29 IO_L8N_SRCC_25, N31 IO_L12N_SM13N_25, N32 IO_L0P_25, N33 IO_L1N_25, N34 IO_L5P_SM10P_25, P26 IO_L17P_25, P28 IO_L2N_SM8N_25, P29 IO_L8P_SRCC_25, P30 IO_L3N_SM9N_25, P31 IO_L12P_SM13P_25, P32 VCCO_25, P33 IO_L1P_25, P34 IO_L9N_MRCC_25, R26 IO_L6P_SM11P_25, R27 IO_L6N_SM11N_25, R28 IO_L2P_SM8P_25, R29 VCCO_25, R30 IO_L3P_SM9P_25, R31 IO_L16P_VRN_25, R32 IO_L16N_VRP_25, R33 IO_L9P_MRCC_25, T26 VCCO_25, T27 IO_L11P_SRCC_25, T28 IO_L11N_SRCC_25, T29 IO_L7P_SM12P_25, T30 IO_L7N_SM12N_25, T32 IO_L10N_MRCC_25, T33 IO_L13P_SM14P_25, T34 IO_L13N_SM14N_25, U26 IO_L14P_25, U27 IO_L14N_VREF_25, U29 IO_L15P_SM15P_25, U30 IO_L15N_SM15N_25, U31 IO_L10P_MRCC_25, V26 IO_L18P_GC_25, V27 IO_L18N_GC_25, V28 IO_L19P_GC_25, V29 IO_L19N_GC_25, W27 VCCO_25
part C pins: A27 IO_L0N_28, A28 IO_L2N_28, A29 IO_L7N_27, A30 IO_L9N_MRCC_27, A31 VCCO_27, A32 IO_L16N_27, A33 IO_L18P_27, A34 IO_L18N_27, B26 IO_L0P_28, B27 IO_L2P_28, B28 VCCO_28, B29 IO_L7P_27, B30 IO_L9P_MRCC_27, B31 IO_L14N_VREF_27, B32 IO_L16P_27, C26 IO_L9N_MRCC_28, C27 IO_L1P_28, C28 IO_L1N_28, C29 IO_L5N_27, C31 IO_L14P_27, D24 IO_L5P_28, D25 IO_L5N_28, D26 IO_L9P_MRCC_28, D28 IO_L5P_27, D29 IO_L11P_SRCC_27, D30 IO_L11N_SRCC_27, E25 IO_L13N_28, E26 IO_L15N_28, E27 IO_L11N_SRCC_28, E28 IO_L3N_27, E29 VCCO_27, E30 IO_L13N_27, F22 IO_L7P_28, F23 IO_L7N_28, F24 IO_L13P_28, F25 IO_L15P_28, F26 VCCO_28, F27 IO_L11P_SRCC_28, F28 IO_L3P_27, F29 IO_L13P_27, F30 IO_L6N_27, G20 IO_L3P_28, G21 IO_L3N_28, G22 IO_L6N_28, G23 VCCO_28, G24 IO_L8N_SRCC_28, G25 IO_L17P_28, G26 IO_L17N_28, G27 IO_L1N_27, G29 IO_L17N_27, G30 IO_L6P_27, H20 VCCO_28, H21 IO_L6P_28, H22 IO_L10N_MRCC_28, H23 IO_L8P_SRCC_28, H24 IO_L0N_27, H26 IO_L1P_27, H27 IO_L15P_27, H28 IO_L15N_27, H29 IO_L17P_27, H30 VCCO_27, J20 IO_L18N_28, J21 IO_L10P_MRCC_28, J23 IO_L12N_VRP_28, J24 IO_L0P_27, J25 IO_L2P_27, J26 IO_L2N_27, J27 VCCO_27, J28 IO_L10N_MRCC_27, J29 IO_L12P_VRN_27, J30 IO_L12N_VRP_27, K20 IO_L18P_28, K21 IO_L16P_28, K22 IO_L16N_28, K23 IO_L12P_VRN_28, K24 VCCO_27, K25 IO_L8P_SRCC_27, K26 IO_L8N_SRCC_27, K27 IO_L10P_MRCC_27, L20 IO_L19N_28, L21 VCCO_28, L22 IO_L14P_28, L23 IO_L14N_VREF_28, L24 IO_L4P_27, L25 IO_L4N_VREF_27, M20 IO_L19P_28, M21 IO_L4P_28, M22 IO_L4N_VREF_28, M24 IO_L19P_27, M25 IO_L19N_27
part D pins: AB10 IO_L4N_VREF_35, AB11 IO_L4P_35, AC11 IO_L19P_GC_35, AC12 IO_L18N_GC_35, AC13 IO_L18P_GC_35, AC14 IO_L4P_A11_D27_34, AC15 VCCO_34, AC16 IO_L19N_VRP_34, AC17 IO_L19P_VRN_34, AD10 IO_L0P_35, AD11 IO_L19N_GC_35, AD12 VCCO_35, AD13 IO_L16P_VRN_35, AD14 IO_L4N_VREF_A10_D26_34, AD15 IO_L18N_A16_34, AD16 IO_L18P_A17_34, AE10 IO_L0N_35, AE11 IO_L3N_SM1N_35, AE12 IO_L3P_SM1P_35, AE13 IO_L16N_VRP_35, AE15 IO_L5P_A09_D25_34, AE16 IO_L16N_A20_34, AE17 IO_L16P_A21_34, AF10 IO_L2P_SM0P_35, AF12 IO_L13N_SM6N_35, AF13 IO_L13P_SM6P_35, AF14 IO_L1P_GC_34, AF15 IO_L5N_A08_D24_34, AF16 VCCO_34, AF17 IO_L14P_A25_34, AG10 IO_L2N_SM0N_35, AG11 IO_L1N_35, AG12 IO_L1P_35, AG13 VCCO_35, AG14 IO_L1N_GC_34, AG15 IO_L9N_MRCC_34, AG16 IO_L9P_MRCC_34, AG17 IO_L14N_VREF_A24_34, AH10 VCCO_35, AH11 IO_L5P_SM2P_35, AH12 IO_L11N_SRCC_35, AH13 IO_L11P_SRCC_35, AH14 IO_L2P_A15_D31_34, AH16 IO_L12N_A02_D18_34, AH17 IO_L12P_A03_D19_34, AJ10 IO_L6P_SM3P_35, AJ11 IO_L5N_SM2N_35, AJ13 IO_L0P_GC_34, AJ14 IO_L2N_A14_D30_34, AJ15 IO_L10P_MRCC_34, AJ16 IO_L11P_SRCC_34, AJ17 VCCO_34, AK10 IO_L6N_SM3N_35, AK11 IO_L7N_SM4N_35, AK12 IO_L7P_SM4P_35, AK13 IO_L0N_GC_34, AK14 VCCO_34, AK15 IO_L10N_MRCC_34, AK16 IO_L11N_SRCC_34, AK17 IO_L17P_A19_34, AL10 IO_L8P_SRCC_35, AL11 VCCO_35, AL12 IO_L15N_SM7N_35, AL13 IO_L15P_SM7P_35, AL14 IO_L3P_A13_D29_34, AL15 IO_L7P_A05_D21_34, AL17 IO_L17N_A18_34, AM10 IO_L8N_SRCC_35, AM11 IO_L9N_MRCC_35, AM12 IO_L9P_MRCC_35, AM14 IO_L3N_A12_D28_34, AM15 IO_L7N_A04_D20_34, AM16 IO_L13P_A01_D17_34, AM17 IO_L15P_A23_34, AN9 IO_L10P_MRCC_35, AN11 IO_L12P_SM5P_35, AN12 IO_L14P_35, AN13 IO_L17P_35, AN14 IO_L6P_A07_D23_34, AN15 VCCO_34, AN16 IO_L13N_A00_D16_34, AN17 IO_L15N_A22_34, AP9 IO_L10N_MRCC_35, AP10 IO_L12N_SM5N_35, AP11 IO_L14N_VREF_35, AP12 VCCO_35, AP13 IO_L17N_35, AP14 IO_L6N_A06_D22_34, AP15 IO_L8N_SRCC_34, AP16 IO_L8P_SRCC_34
part E pins: A10 IO_L10N_MRCC_36, A11 VCCO_36, A12 IO_L9N_MRCC_36, A13 IO_L7N_36, A14 IO_L7P_36, A15 IO_L12N_VRP_37, A17 IO_L17N_37, A18 IO_L11N_SRCC_37, A19 IO_L5N_37, A20 IO_L3N_37, A21 VCCO_37, A22 IO_L7N_37, B10 IO_L10P_MRCC_36, B11 IO_L6N_36, B12 IO_L9P_MRCC_36, B14 IO_L14N_VREF_37, B15 IO_L12P_VRN_37, B16 IO_L15N_37, B17 IO_L17P_37, B18 VCCO_37, B19 IO_L11P_SRCC_37, B20 IO_L5P_37, B21 IO_L3P_37, B22 IO_L7P_37, C11 IO_L8N_SRCC_36, C12 IO_L6P_36, C13 IO_L5N_36, C14 IO_L14P_37, C15 VCCO_37, C16 IO_L15P_37, C17 IO_L13N_37, C18 IO_L13P_37, D10 IO_L12N_VRP_36, D11 IO_L8P_SRCC_36, D12 VCCO_36, D13 IO_L5P_36, D14 IO_L0N_37, D15 IO_L0P_37, D16 IO_L9N_MRCC_37, E10 IO_L12P_VRN_36, E11 IO_L11N_SRCC_36, E12 IO_L11P_SRCC_36, E13 IO_L3N_36, E15 IO_L2N_37, E16 IO_L9P_MRCC_37, F10 IO_L14N_VREF_36, F12 IO_L13N_36, F13 IO_L3P_36, F14 IO_L6N_37, F15 IO_L2P_37, F16 VCCO_37, G10 IO_L14P_36, G11 IO_L2N_36, G12 IO_L13P_36, G13 VCCO_36, G14 IO_L8N_SRCC_37, G15 IO_L6P_37, G16 IO_L1N_37, H10 VCCO_36, H11 IO_L15N_36, H12 IO_L2P_36, H13 IO_L1N_36, H14 IO_L8P_SRCC_37, H16 IO_L1P_37, J10 IO_L16N_36, J11 IO_L15P_36, J13 IO_L1P_36, J14 IO_L10N_MRCC_37, J15 IO_L10P_MRCC_37, J16 IO_L4N_VREF_37, K10 IO_L16P_36, K11 IO_L17N_36, K12 IO_L17P_36, K13 IO_L4N_VREF_36, K14 VCCO_37, K15 IO_L16N_37, K16 IO_L4P_37, L10 IO_L18N_36, L11 VCCO_36, L12 IO_L0N_36, L13 IO_L4P_36, L14 IO_L18N_37, L15 IO_L16P_37, M10 IO_L18P_36, M11 IO_L19N_36, M12 IO_L0P_36, M14 IO_L18P_37, M15 IO_L19N_37, M16 IO_L19P_37, N11 IO_L19P_36
part F pins: A23 IO_L5P_38, A24 IO_L5N_38, A25 IO_L3N_38, B24 IO_L1N_38, B25 IO_L3P_38, C19 IO_L2N_38, C21 IO_L9P_MRCC_38, C22 IO_L9N_MRCC_38, C23 IO_L11N_SRCC_38, C24 IO_L1P_38, C25 VCCO_38, D18 IO_L2P_38, D19 IO_L7P_38, D20 IO_L7N_38, D21 IO_L13N_38, D22 VCCO_38, D23 IO_L11P_SRCC_38, E17 IO_L0P_38, E18 IO_L0N_38, E19 VCCO_38, E20 IO_L13P_38, E21 IO_L17N_38, E22 IO_L15P_38, E23 IO_L15N_38, F17 IO_L4N_VREF_38, F18 IO_L6P_38, F19 IO_L6N_38, F20 IO_L17P_38, G17 IO_L4P_38, G19 IO_L8N_SRCC_38, H17 IO_L10P_MRCC_38, H18 IO_L10N_MRCC_38, H19 IO_L8P_SRCC_38, J17 VCCO_38, J18 IO_L12P_VRN_38, J19 IO_L12N_VRP_38, K17 IO_L16N_38, K18 IO_L19N_38, L17 IO_L16P_38, L18 IO_L19P_38, L19 IO_L14N_VREF_38, M17 IO_L18N_38, M18 VCCO_38, M19 IO_L14P_38, N17 IO_L18P_38
part G pins: AD29 MGTRXN3_104, AD30 MGTRXP3_104, AD33 MGTTXN3_104, AD34 MGTTXP3_104, AE27 MGTREFCLK1P_104, AE28 MGTREFCLK1N_104, AE31 MGTRXN2_104, AE32 MGTRXP2_104, AF29 MGTRXN1_104, AF30 MGTRXP1_104, AF33 MGTTXN2_104, AF34 MGTTXP2_104, AG27 MGTREFCLK0P_104, AG28 MGTREFCLK0N_104, AG31 MGTRXN0_104, AG32 MGTRXP0_104, AH29 MGTRXN3_103, AH30 MGTRXP3_103, AH33 MGTTXN1_104, AH34 MGTTXP1_104, AJ27 MGTREFCLK1P_103, AJ28 MGTREFCLK1N_103, AJ31 MGTRXN2_103, AJ32 MGTRXP2_103, AK29 MGTRXN1_103, AK30 MGTRXP1_103, AK33 MGTTXN0_104, AK34 MGTTXP0_104, AL27 MGTREFCLK0P_103, AL28 MGTREFCLK0N_103, AL31 MGTTXN3_103, AL32 MGTTXP3_103, AM29 MGTRXN0_103, AM30 MGTRXP0_103, AM33 MGTTXN2_103, AM34 MGTTXP2_103, AN31 MGTTXN1_103, AN32 MGTTXP1_103, AP33 MGTTXN0_103, AP34 MGTTXP0_103
part H pins: AA27 MGTREFCLK1P_105, AA28 MGTREFCLK1N_105, AA31 MGTRXN3_105, AA32 MGTRXP3_105, AB29 MGTRXN2_105, AB30 MGTRXP2_105, AB33 MGTTXN0_105, AB34 MGTTXP0_105, AC27 MGTREFCLK0P_105, AC28 MGTREFCLK0N_105, AC31 MGTRXN0_105, AC32 MGTRXP0_105, AH5 MGTRXP3_113, AH6 MGTRXN3_113, AJ3 MGTRXP2_113, AJ4 MGTRXN2_113, AJ7 MGTREFCLK1N_113, AJ8 MGTREFCLK1P_113, AK5 MGTRXP1_113, AK6 MGTRXN1_113, AL3 MGTTXP3_113, AL4 MGTTXN3_113, AL7 MGTREFCLK0N_113, AL8 MGTREFCLK0P_113, AM1 MGTTXP2_113, AM2 MGTTXN2_113, AM5 MGTRXP0_113, AM6 MGTRXN0_113, AN3 MGTTXP1_113, AN4 MGTTXN1_113, AP1 MGTTXP0_113, AP2 MGTTXN0_113, V33 MGTTXN3_105, V34 MGTTXP3_105, W31 MGTTXN1_105, W32 MGTTXP1_105, Y29 MGTRXN1_105, Y30 MGTRXP1_105, Y33 MGTTXN2_105, Y34 MGTTXP2_105
part I pins: AA3 MGTRXP3_115, AA4 MGTRXN3_115, AA7 MGTREFCLK1N_115, AA8 MGTREFCLK1P_115, AB1 MGTTXP0_115, AB2 MGTTXN0_115, AB5 MGTRXP2_115, AB6 MGTRXN2_115, AC3 MGTRXP0_115, AC4 MGTRXN0_115, AC7 MGTREFCLK0N_115, AC8 MGTREFCLK0P_115, AD1 MGTTXP3_114, AD2 MGTTXN3_114, AD5 MGTRXP3_114, AD6 MGTRXN3_114, AE3 MGTRXP2_114, AE4 MGTRXN2_114, AE7 MGTREFCLK1N_114, AE8 MGTREFCLK1P_114, AF1 MGTTXP2_114, AF2 MGTTXN2_114, AF5 MGTRXP1_114, AF6 MGTRXN1_114, AG3 MGTRXP0_114, AG4 MGTRXN0_114, AG7 MGTREFCLK0N_114, AG8 MGTREFCLK0P_114, AH1 MGTTXP1_114, AH2 MGTTXN1_114, AK1 MGTTXP0_114, AK2 MGTTXN0_114, V1 MGTTXP3_115, V2 MGTTXN3_115, W3 MGTTXP1_115, W4 MGTTXN1_115, Y1 MGTTXP2_115, Y2 MGTTXN2_115, Y5 MGTRXP1_115, Y6 MGTRXN1_115
part J pins: D5 MGTRXN2_117, D6 MGTRXP2_117, F1 MGTTXN2_117, F2 MGTTXP2_117, F5 MGTRXN3_117, F6 MGTRXP3_117, G3 MGTTXN3_117, G4 MGTTXP3_117, H1 MGTREFCLKN_117, H2 MGTREFCLKP_117, H5 MGTRXN1_117, H6 MGTRXP1_117, J3 MGTTXN1_117, J4 MGTTXP1_117, J8 MGTRBIAS_117, K1 MGTTXN0_117, K2 MGTTXP0_117, K5 MGTRXN0_117, K6 MGTRXP0_117, L3 MGTTXN2_116, L4 MGTTXP2_116, L8 MGTRBIAS_116, M1 MGTTXN3_116, M2 MGTTXP3_116, M5 MGTRXN3_116, M6 MGTRXP3_116, N3 MGTRXN2_116, N4 MGTRXP2_116, P1 MGTTXN1_116, P2 MGTTXP1_116, P5 MGTREFCLKN_116, P6 MGTREFCLKP_116, R3 MGTRXN1_116, R4 MGTRXP1_116, T1 MGTTXN0_116, T2 MGTTXP0_116, U3 MGTRXN0_116, U4 MGTRXP0_116
part K pins: A3 MGTTXN2_118, A4 MGTTXP2_118, A7 MGTRXN2_118, A8 MGTRXP2_118, B1 MGTTXN3_118, B2 MGTTXP3_118, B5 MGTRXN3_118, B6 MGTRXP3_118, C3 MGTREFCLKN_118, C4 MGTREFCLKP_118, C7 MGTRXN1_118, C8 MGTRXP1_118, D1 MGTTXN1_118, D2 MGTTXP1_118, E3 MGTTXN0_118, E4 MGTTXP0_118, E7 MGTRXN0_118, E8 MGTRXP0_118, G8 MGTRBIAS_118
part L pins: AA6 MGTAVCC_R, AA29 MGTAVCC_L, AB7 MGTAVCC_R, AB28 MGTAVCC_L, AC2 MGTAVTT_R, AC33 MGTAVTT_L, AD3 MGTAVTT_R, AD7 MGTAVCC_R, AD28 MGTAVCC_L, AD32 MGTAVTT_L, AF7 MGTAVCC_R, AF28 MGTAVCC_L, AG2 MGTAVTT_R, AG33 MGTAVTT_L, AH3 MGTAVTT_R, AH7 MGTAVCC_R, AH28 MGTAVCC_L, AH32 MGTAVTT_L, AK7 MGTAVCC_R, AK28 MGTAVCC_L, AL2 MGTAVTT_R, AL6 MGTAVCC_R, AL29 MGTAVCC_L, AL33 MGTAVTT_L, AM3 MGTAVTT_R, AM7 MGTAVCC_R, AM28 MGTAVCC_L, AM32 MGTAVTT_L, AP5 MGTRREF_115, AP6 MGTAVTTRCAL_115, AP29 MGTAVTTRCAL_105, AP30 MGTRREF_105, W2 MGTAVTT_R, W33 MGTAVTT_L, Y3 MGTAVTT_R, Y32 MGTAVTT_L
part M pins: A1 MGTHAGND, A2 MGTHAGND, A5 MGTHAGND, A6 MGTHAVCCRX, B3 MGTHAGND, B4 MGTHAVCC, B7 MGTHAGND, B8 MGTHAVCCRX, C1 MGTHAGND, C2 MGTHAVTT, C5 MGTHAGND, C6 MGTHAVCCRX, D3 MGTHAGND, D4 MGTHAVCC, D7 MGTHAGND, D8 MGTHAVCCRX, E1 MGTHAGND, E2 MGTHAGND, E5 MGTHAGND, E6 MGTHAVCCRX, F3 MGTHAGND, F4 MGTHAVCC, F7 MGTHAGND, F8 MGTHAVCCPLL, G1 MGTHAGND, G2 MGTHAVTT, G5 MGTHAGND, G6 MGTHAVCC, G7 MGTHAGND, H3 MGTHAGND, H4 MGTHAVCC, H7 MGTHAGND, H8 MGTHAVCCPLL, J1 MGTHAGND, J2 MGTHAGND, J5 MGTHAGND, J6 MGTHAVCCRX, J7 MGTHAGND, K3 MGTHAGND, K4 MGTHAVCC, K7 MGTHAGND, K8 MGTHAVCCPLL, L1 MGTHAGND, L2 MGTHAVTT, L5 MGTHAGND, L6 MGTHAVCCRX, M3 MGTHAGND, M4 MGTHAVCC, M7 MGTHAGND, M8 MGTHAGND, N1 MGTHAGND, N2 MGTHAGND, N5 MGTHAGND, N6 MGTHAVCCRX, P3 MGTHAGND, P4 MGTHAVCC, P7 MGTHAGND, R1 MGTHAGND, R2 MGTHAVTT, R5 MGTHAGND, R6 MGTHAVCC, T3 MGTHAGND, T4 MGTHAVCC, T5 MGTHAGND, T6 MGTHAGND, U1 MGTHAGND, U2 MGTHAGND, U5 MGTHAGND
part N pins: P10 VCCO_0, P25 M1_0, R25 M2_0, T8 DIN_0, T9 INIT_B_0, T25 M0_0, U8 DONE_0, U9 VCCO_0, U10 HSWAPEN_0, U17 VREFN_0, U18 VP_0, U25 PROGRAM_B_0, V9 TDI_0, V17 VN_0, V18 VREFP_0, W8 TCK_0, W9 TDO_0, W10 TMS_0, W17 DXN_0, W18 DXP_0, W25 CSI_B_0, W26 DOUT_BUSY_0, Y10 CCLK_0, Y25 RDWR_B_0
part O pins: A9 GND, A16 GND, A26 GND, AA10 VCCAUX, AA12 VCCINT, AA14 VCCINT, AA16 VCCINT, AA18 VCCINT, AA20 VCCINT, AA22 VCCINT, AA24 VCCAUX, AA25 VFS_0, AB13 VCCINT, AB15 VCCINT, AB17 VCCINT, AB19 VCCINT, AB21 VCCINT, AB23 VCCAUX, B9 GND, B13 GND, B23 GND, B33 GND, C9 GND, C10 GND, C20 GND, C30 GND, D9 GND, D17 GND, D27 GND, E9 GND, E14 GND, E24 GND, E34 GND, F9 GND, F11 GND, F21 GND, F31 GND, G9 GND, G18 GND, G28 GND, H9 GND, H15 GND, H25 GND, J9 GND, J12 GND, J22 GND, J32 GND, K9 GND, K19 GND, K29 GND, L9 GND, L16 GND, L26 GND, M9 GND, M13 GND, M23 GND, M33 GND, N9 GND, N10 GND, N12 VCCINT, N13 GND, N14 VCCINT, N15 GND, N16 VCCINT, N18 VCCINT, N19 GND, N20 VCCINT, N21 GND, N22 VCCINT, N23 GND, N24 VCCAUX, N30 GND, P8 GND, P9 GND, P11 VCCAUX, P12 GND, P13 VCCINT, P14 GND, P15 VCCINT, P16 GND, P17 VCCINT, P18 GND, P19 VCCINT, P20 GND, P21 VCCINT, P22 GND, P23 VCCINT, P24 GND, P27 GND, R7 GND, R8 GND, R9 VBATT_0, R10 VCCAUX, R11 GND, R12 VCCINT, R13 GND, R14 VCCINT, R15 GND, R16 VCCINT, R17 GND, R18 VCCINT, R19 GND, R20 VCCINT, R21 GND, R22 VCCINT, R23 GND, R24 VCCAUX, R34 GND, T7 GND, T10 GND, T11 VCCAUX, T12 GND, T13 VCCINT, T14 GND, T15 VCCINT, T16 GND, T17 AVSS_0, T18 AVDD_0, T19 VCCINT, T20 GND, T21 VCCINT, T22 GND, T23 VCCINT, T24 GND, T31 GND, U6 GND, U7 GND, U11 GND, U12 VCCINT, U13 GND, U14 VCCINT, U15 GND, U16 VCCINT, U19 GND, U20 VCCINT, U21 GND, U22 VCCINT, U23 GND, U24 VCCAUX, U28 GND, U32 GND, U33 GND, U34 GND, V3 GND, V4 GND, V5 GND, V6 GND, V7 GND, V8 GND, V10 GND, V11 VCCAUX, V12 GND, V13 VCCINT, V14 GND, V15 VCCINT, V19 VCCINT, V21 VCCINT, V23 VCCINT, W12 VCCINT, W14 VCCINT, W16 VCCINT, W20 VCCINT, W22 VCCINT, W24 VCCAUX, Y11 VCCAUX, Y13 VCCINT, Y15 VCCINT, Y17 VCCINT, Y19 VCCINT, Y21 VCCINT, Y23 VCCINT
part P pins: AA1 GND, AA2 GND, AA5 GND, AA9 GND, AA11 GND, AA13 GND, AA15 GND, AA17 GND, AA19 GND, AA21 GND, AA23 GND, AA26 GND, AA30 GND, AA33 GND, AA34 GND, AB3 GND, AB4 GND, AB8 GND, AB9 GND, AB12 GND, AB14 GND, AB16 GND, AB18 GND, AB20 GND, AB22 GND, AB25 GND, AB26 GND, AB27 GND, AB31 GND, AB32 GND, AC1 GND, AC5 GND, AC6 GND, AC9 GND, AC10 GND, AC20 GND, AC26 GND, AC29 GND, AC30 GND, AC34 GND, AD4 GND, AD8 GND, AD9 GND, AD17 GND, AD26 GND, AD27 GND, AD31 GND, AE1 GND, AE2 GND, AE5 GND, AE6 GND, AE9 GND, AE14 GND, AE24 GND, AE26 GND, AE29 GND, AE30 GND, AE33 GND, AE34 GND, AF3 GND, AF4 GND, AF8 GND, AF9 GND, AF11 GND, AF21 GND, AF26 GND, AF27 GND, AF31 GND, AF32 GND, AG1 GND, AG5 GND, AG6 GND, AG9 GND, AG18 GND, AG26 GND, AG29 GND, AG30 GND, AG34 GND, AH4 GND, AH8 GND, AH9 GND, AH15 GND, AH25 GND, AH26 GND, AH27 GND, AH31 GND, AJ1 GND, AJ2 GND, AJ5 GND, AJ6 GND, AJ9 GND, AJ12 GND, AJ22 GND, AJ26 GND, AJ29 GND, AJ30 GND, AJ33 GND, AJ34 GND, AK3 GND, AK4 GND, AK8 GND, AK9 GND, AK19 GND, AK26 GND, AK27 GND, AK31 GND, AK32 GND, AL1 GND, AL5 GND, AL9 GND, AL16 GND, AL26 GND, AL30 GND, AL34 GND, AM4 GND, AM8 GND, AM9 GND, AM13 GND, AM23 GND, AM26 GND, AM27 GND, AM31 GND, AN1 GND, AN2 GND, AN5 GND, AN6 GND, AN7 GND, AN8 GND, AN10 GND, AN20 GND, AN27 GND, AN28 GND, AN29 GND, AN30 GND, AN33 GND, AN34 GND, AP3 GND, AP4 GND, AP7 GND, AP8 GND, AP17 GND, AP27 GND, AP28 GND, AP31 GND, AP32 GND, V16 GND, V20 GND, V22 GND, V24 GND, V25 GND, V30 GND, V31 GND, V32 GND, W1 GND, W5 GND, W6 GND, W7 GND, W11 GND, W13 GND, W15 GND, W19 GND, W21 GND, W23 GND, W28 GND, W29 GND, W30 GND, W34 GND, Y4 GND, Y7 GND, Y8 GND, Y9 GND, Y12 GND, Y14 GND, Y16 GND, Y18 GND, Y20 GND, Y22 GND, Y24 GND, Y26 GND, Y27 GND, Y28 GND, Y31 GND

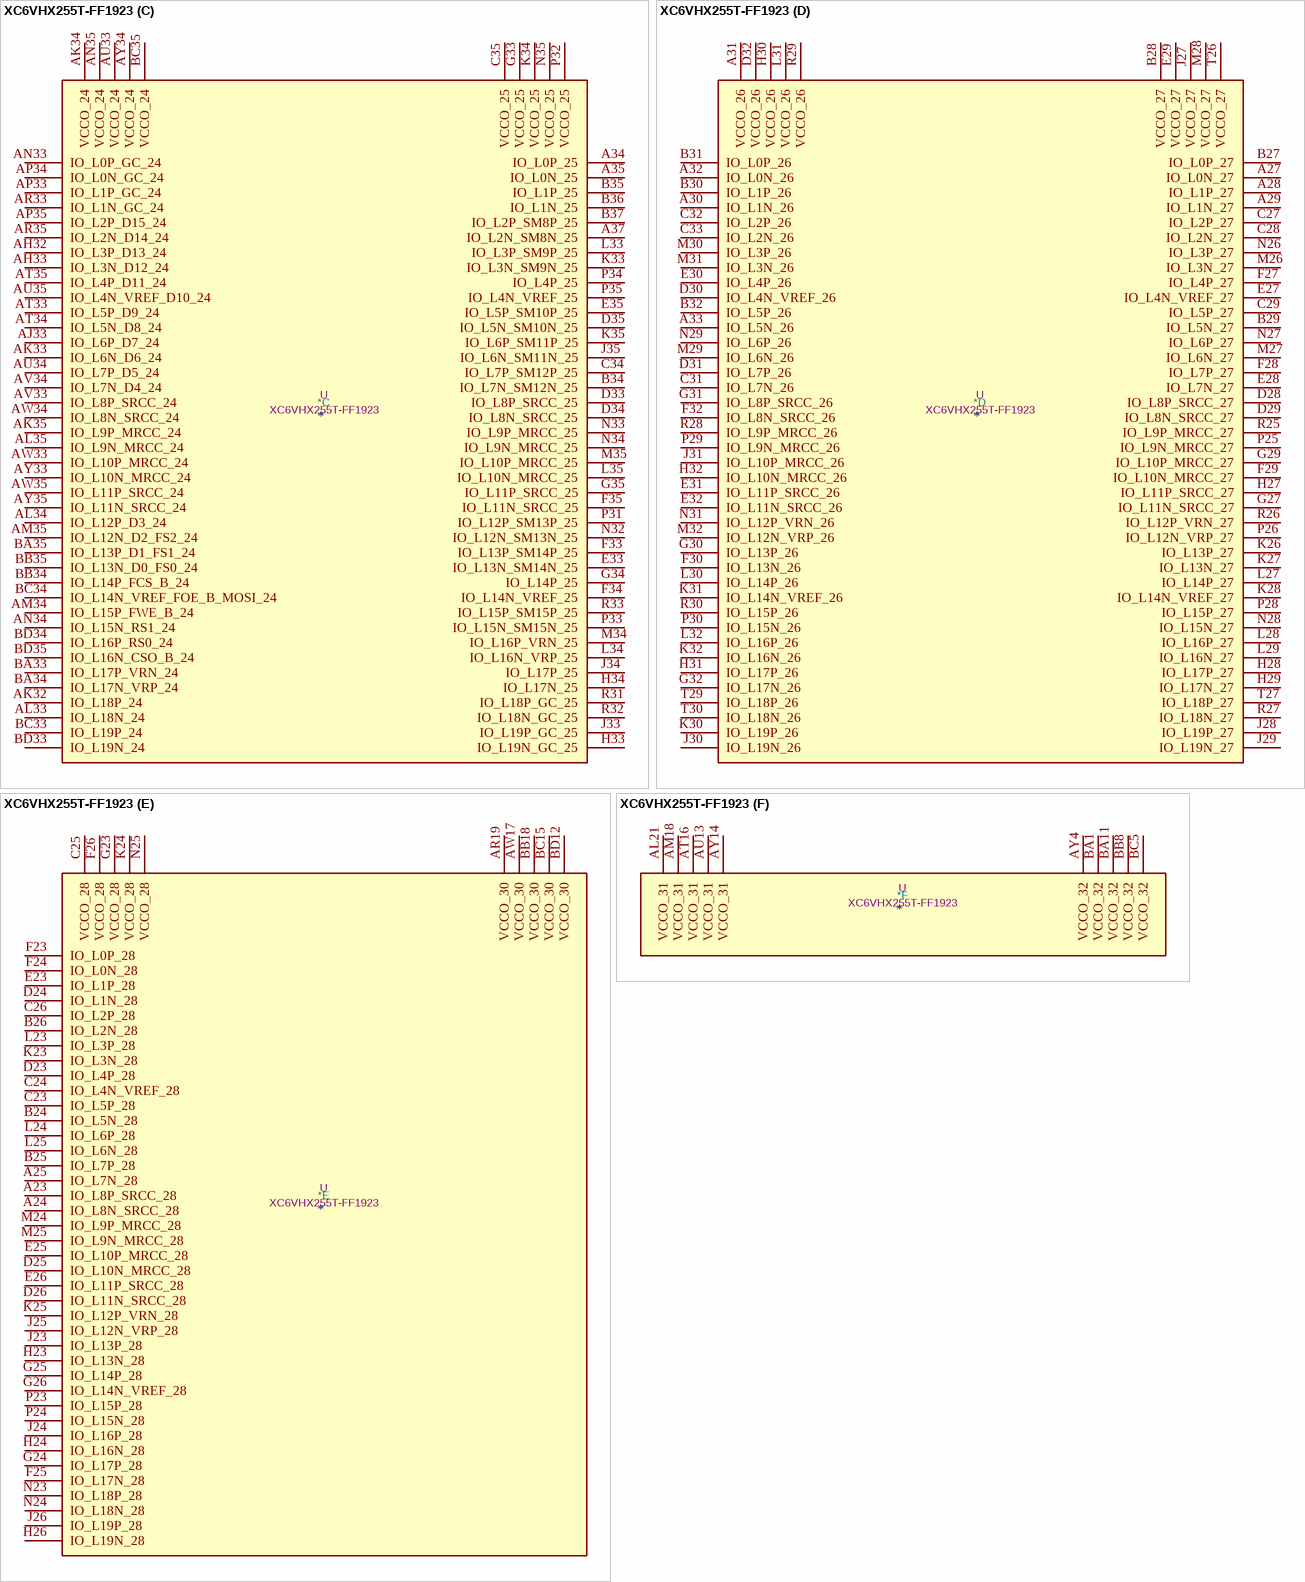
[diagram p6: symbol XC6VHX255T-FF1923]

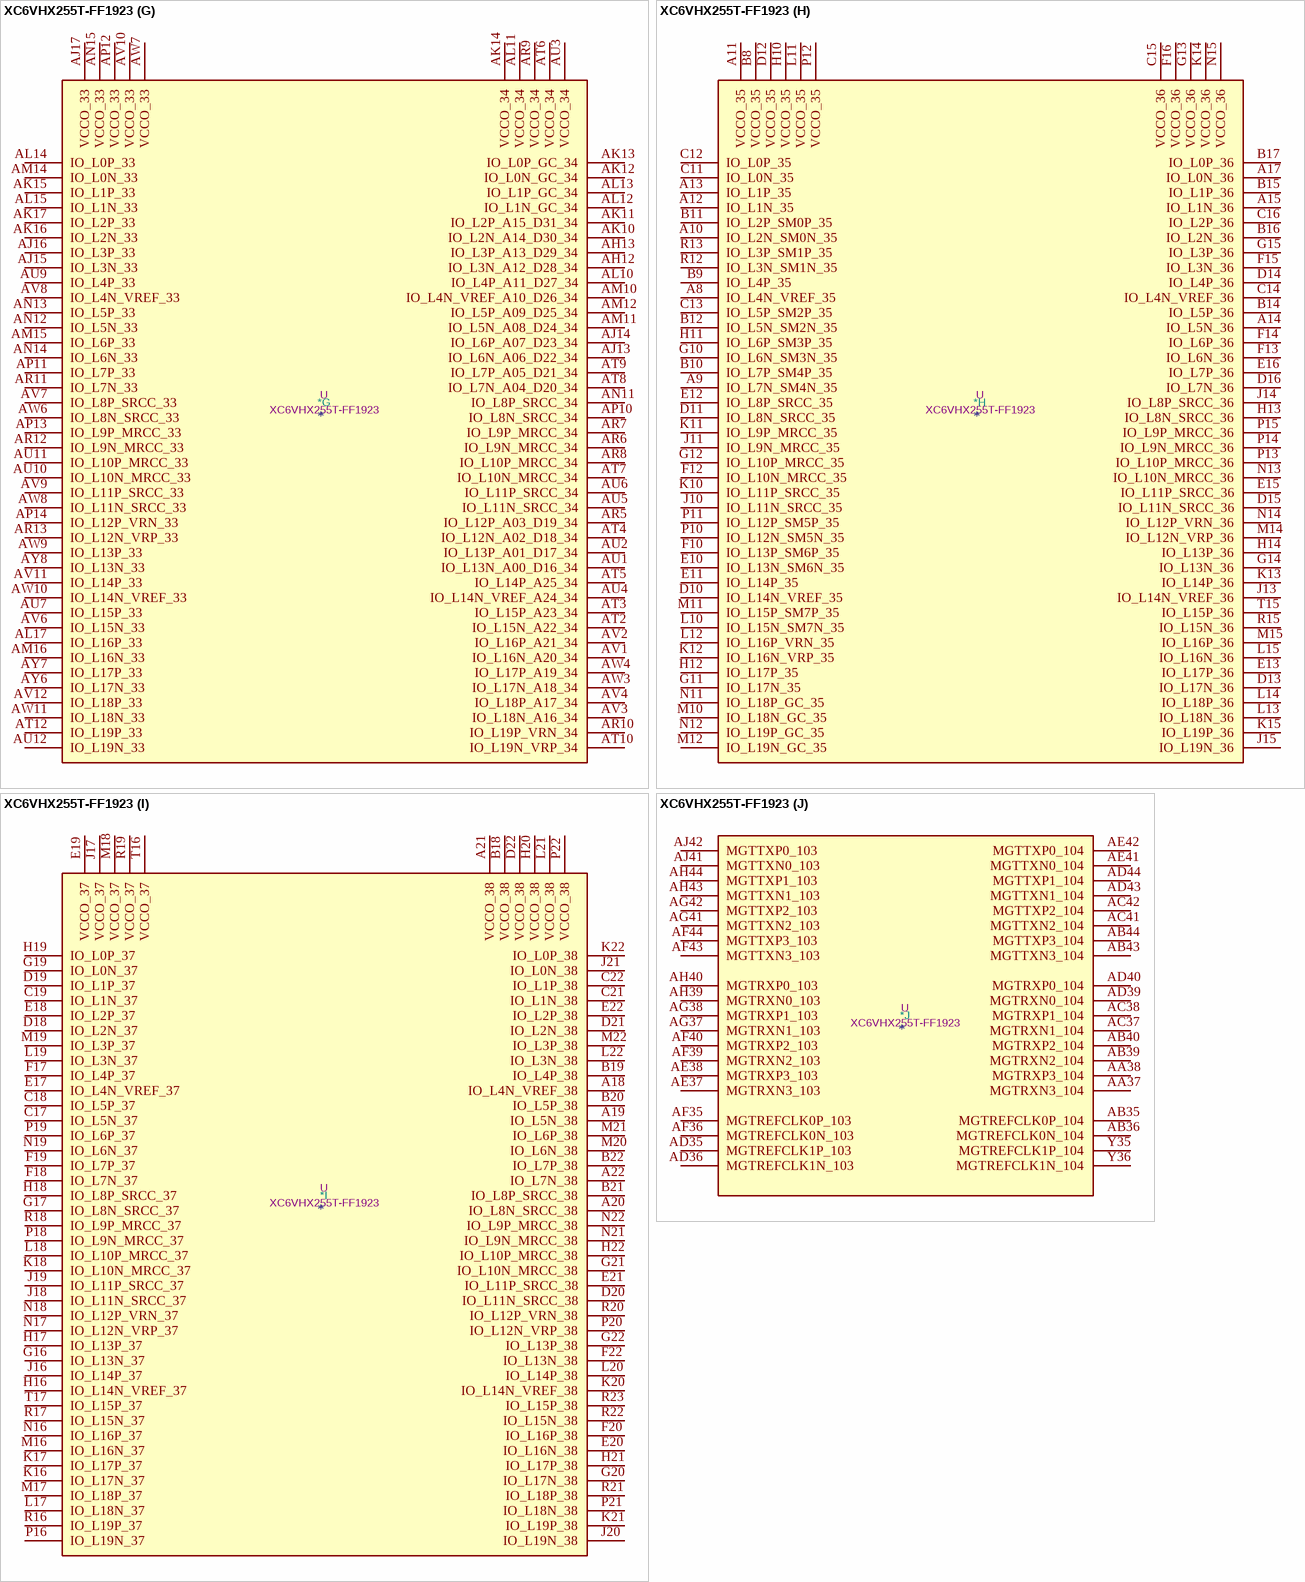
[diagram p7: symbol XC6VHX255T-FF1923]

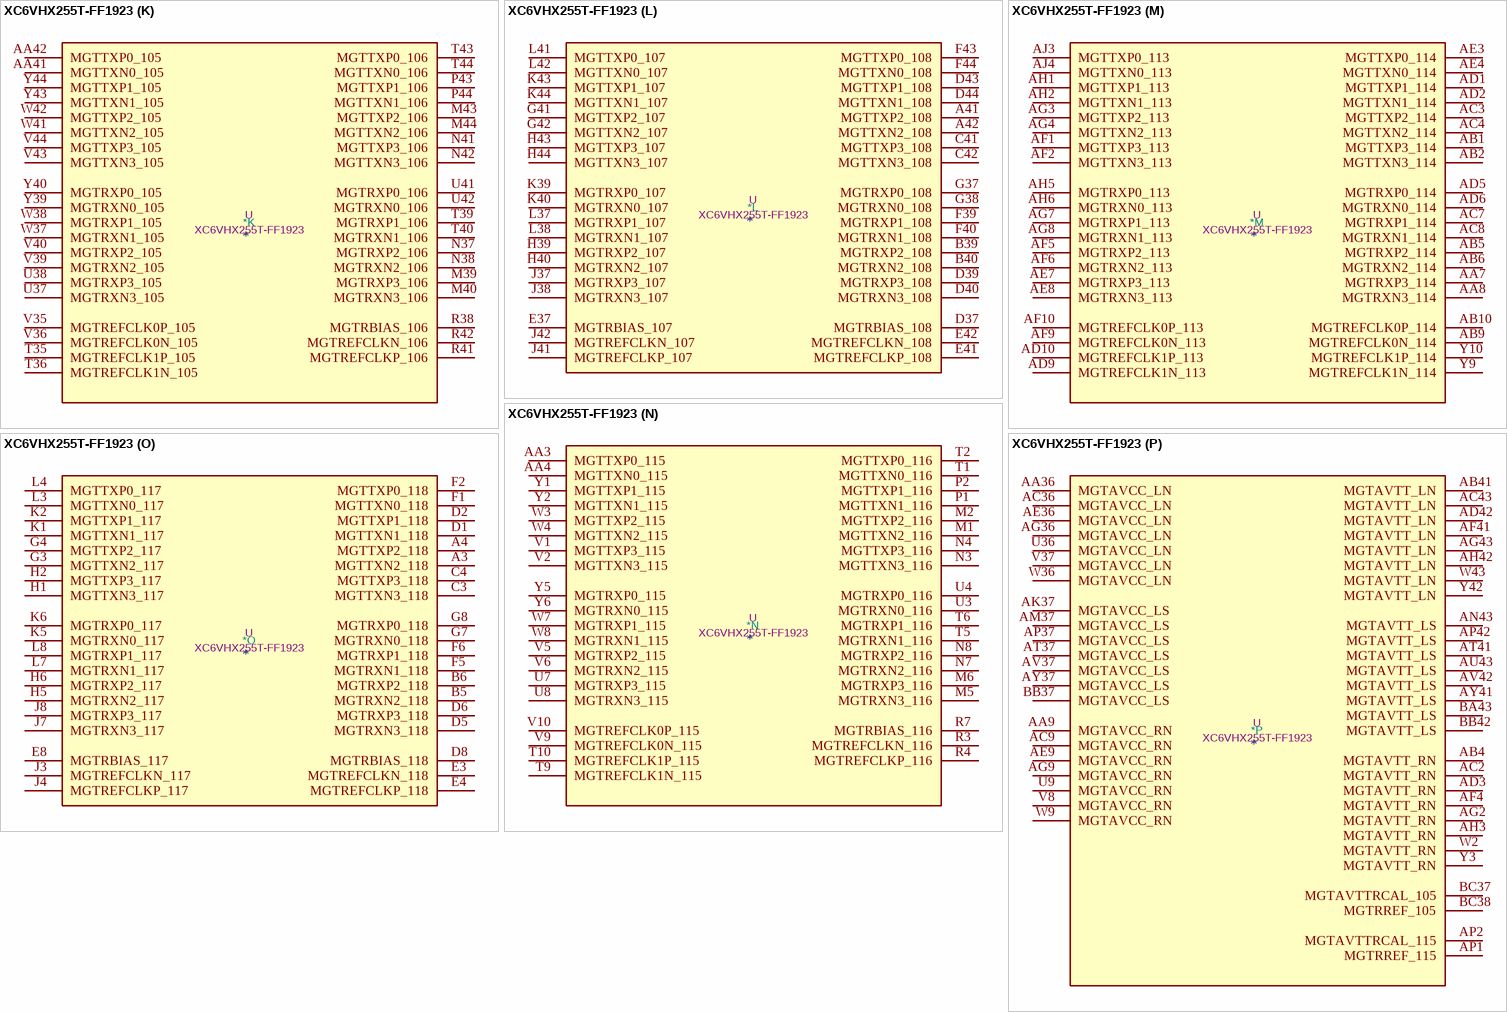
[diagram p8: symbol XC6VHX255T-FF1923]

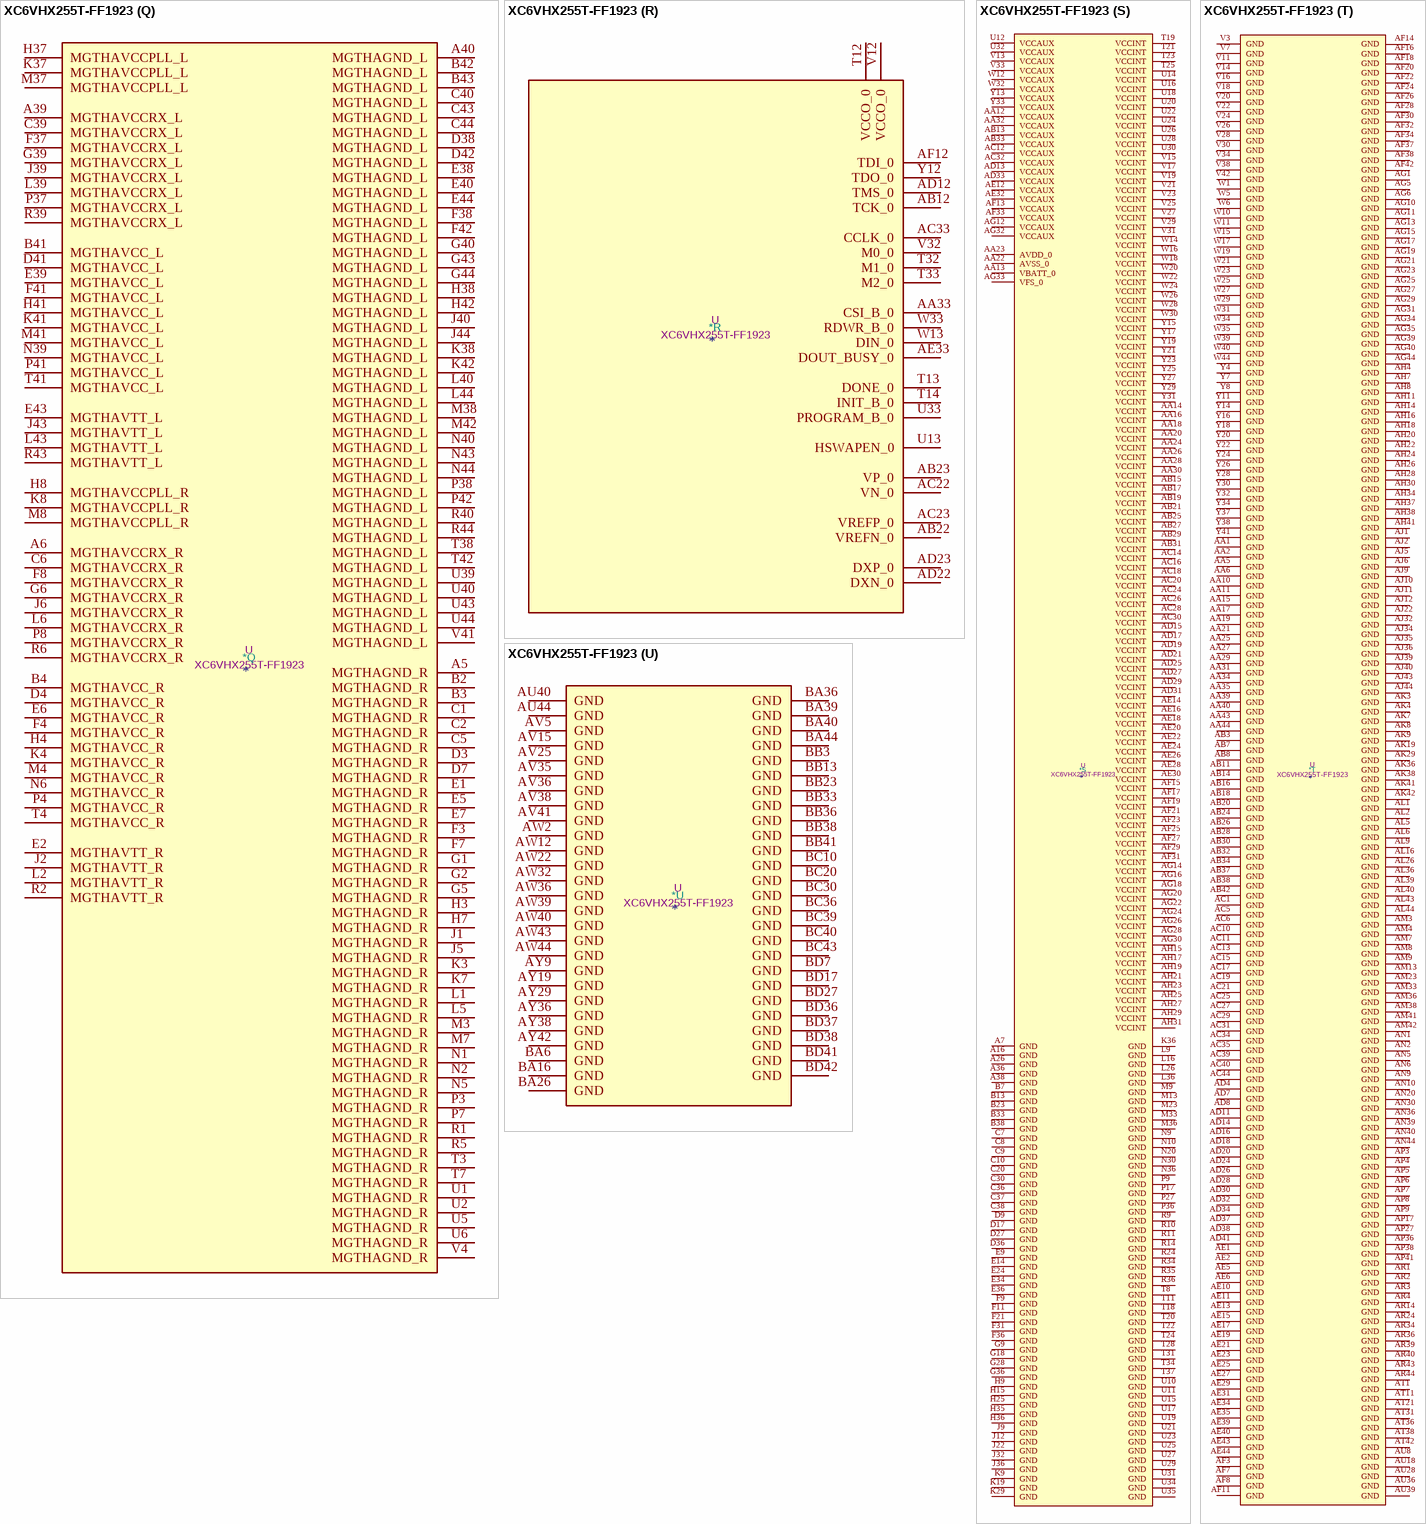
[diagram p9: symbol XC6VHX255T-FF1923]